# Altium integrated library Integrated_Library1.IntLib: 2483 symbols (part 4 of 13)
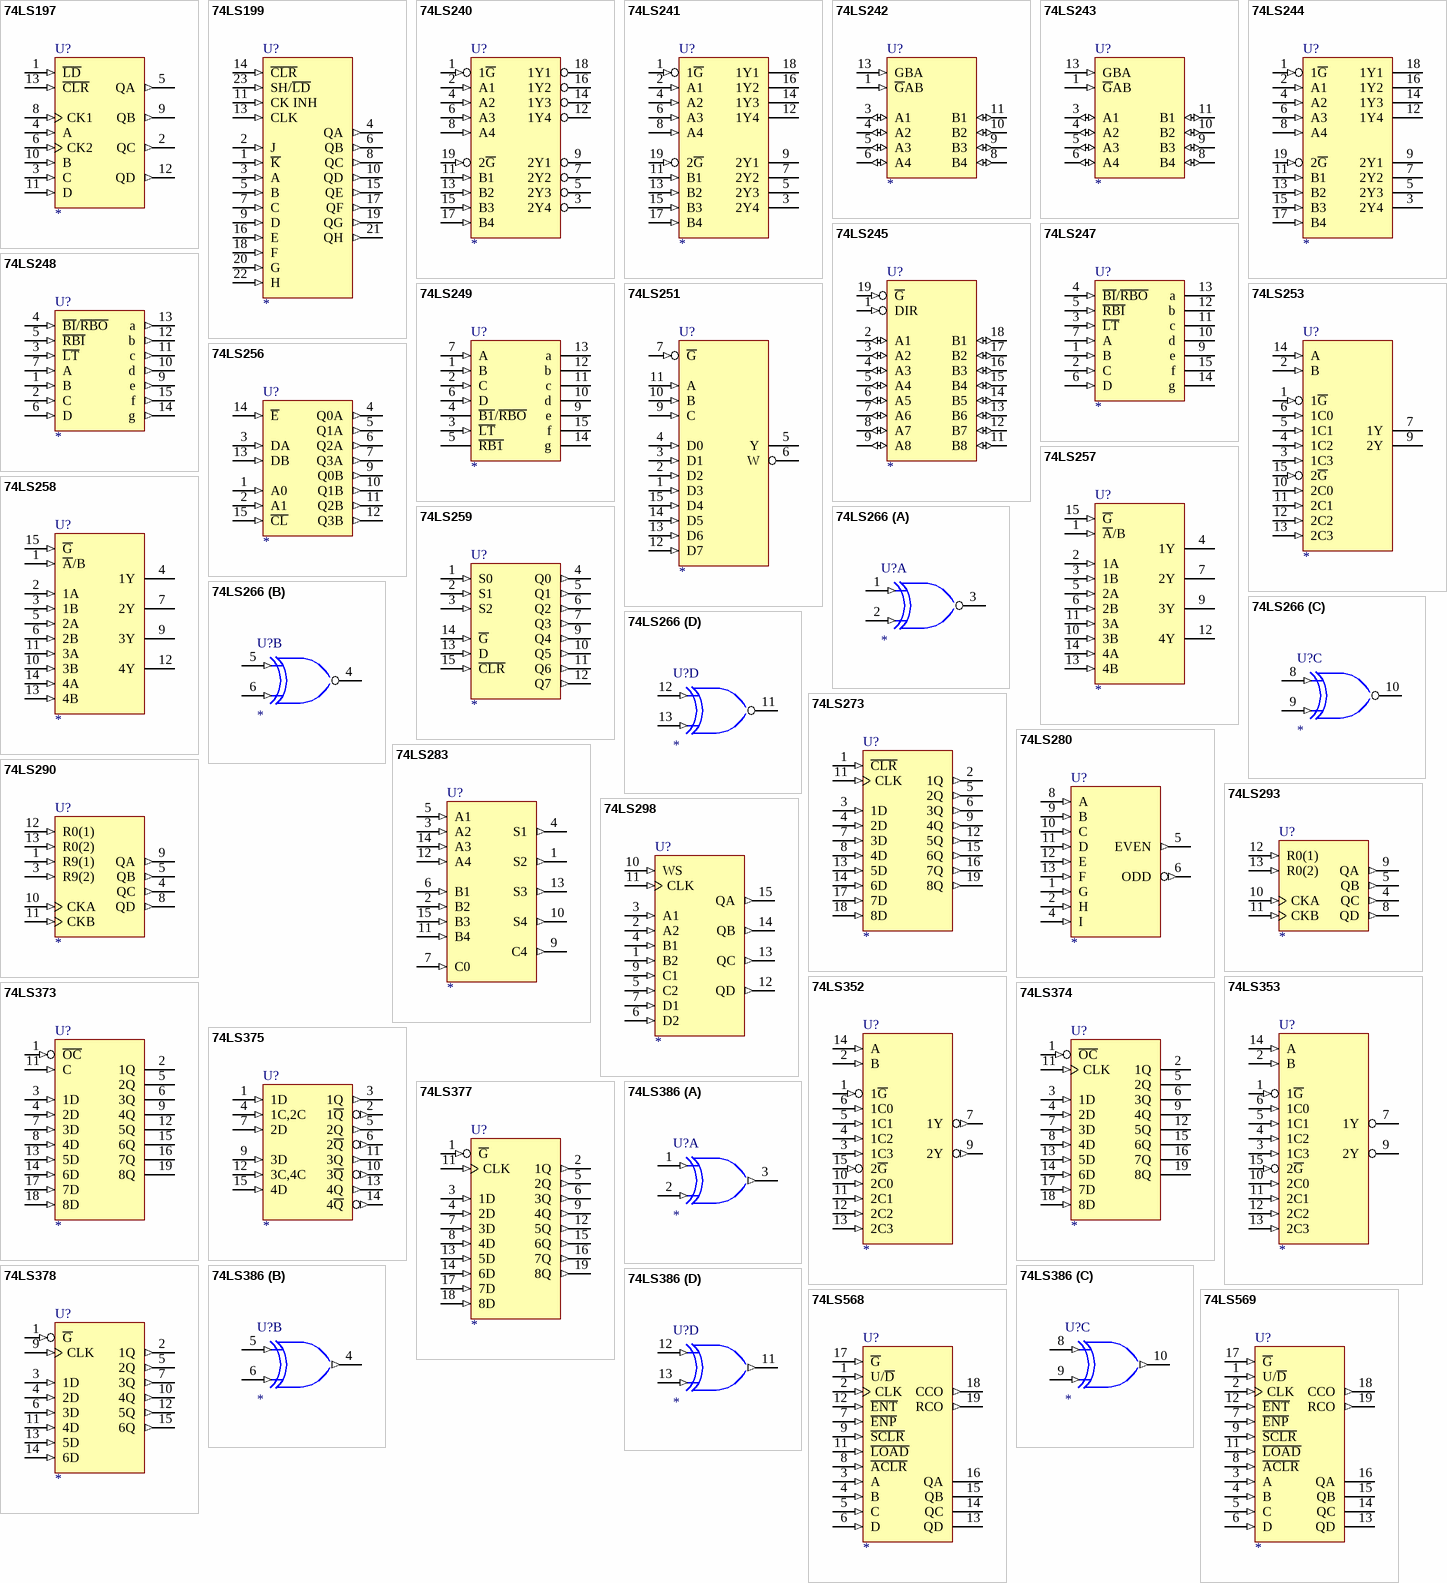
[diagram p111: symbols 74LS197 to 74LS569]

## 74LS290
designator U?
Decade Counter
footprint DIP-14
simulation model 74LS290 (SIMCODE)
pins: 1 R9(1) (in), 3 R9(2) (in), 4 QC (out), 5 QB (out), 7 GND (power) hidden to GND, 8 QD (out), 9 QA (out), 10 CKA (in), 11 CKB (in), 12 R0(1) (in), 13 R0(2) (in), 14 VCC (power) hidden to VCC
1 alternate drawing of the same symbol

## 74LS293
designator U?
4-Bit Binary Counter
footprint DIP-14
simulation model 74LS293 (SIMCODE)
pins: 4 QC (out), 5 QB (out), 7 GND (power) hidden to GND, 8 QD (out), 9 QA (out), 10 CKA (in), 11 CKB (in), 12 R0(1) (in), 13 R0(2) (in), 14 VCC (power) hidden to VCC
1 alternate drawing of the same symbol

## 74LS298
designator U?
Quad 2-Input Multiplexer with Storage
footprint DIP-16
simulation model 74LS298 (SIMCODE)
pins: 1 B2 (in), 2 A2 (in), 3 A1 (in), 4 B1 (in), 5 C2 (in), 6 D2 (in), 7 D1 (in), 8 GND (power) hidden to GND, 9 C1 (in), 10 WS (in), 11 CLK (in), 12 QD (out), 13 QC (out), 14 QB (out), 15 QA (out), 16 VCC (power) hidden to VCC
1 alternate drawing of the same symbol

## 74LS352
designator U?
Dual 4-Line to 1-Line Data Selector/Multiplexer
footprint DIP-16
simulation model 74LS352 (SIMCODE)
pins: 1 1~{G} (in), 2 B (in), 3 1C3 (in), 4 1C2 (in), 5 1C1 (in), 6 1C0 (in), 7 1Y (out), 8 GND (power) hidden to GND, 9 2Y (out), 10 2C0 (in), 11 2C1 (in), 12 2C2 (in), 13 2C3 (in), 14 A (in), 15 2~{G} (in), 16 VCC (power) hidden to VCC
1 alternate drawing of the same symbol

## 74LS353
designator U?
Dual 4-Line to 1-Line Data Selector/Multiplexer with 3-State Output
footprint DIP-16
simulation model 74LS353 (SIMCODE)
pins: 1 1~{G} (in), 2 B (in), 3 1C3 (in), 4 1C2 (in), 5 1C1 (in), 6 1C0 (in), 7 1Y (hiz), 8 GND (power) hidden to GND, 9 2Y (hiz), 10 2C0 (in), 11 2C1 (in), 12 2C2 (in), 13 2C3 (in), 14 A (in), 15 2~{G} (in), 16 VCC (power) hidden to VCC
1 alternate drawing of the same symbol

## 74LS373
designator U?
Octal D-Type Transparent Latch with 3-State Output
footprint DIP-20
simulation model 74LS373 (SIMCODE)
pins: 1 ~{OC} (in), 2 1Q (hiz), 3 1D (in), 4 2D (in), 5 2Q (hiz), 6 3Q (hiz), 7 3D (in), 8 4D (in), 9 4Q (hiz), 10 GND (power) hidden to GND, 11 C (in), 12 5Q (hiz), 13 5D (in), 14 6D (in), 15 6Q (hiz), 16 7Q (hiz), 17 7D (in), 18 8D (in), 19 8Q (hiz), 20 VCC (power) hidden to VCC
1 alternate drawing of the same symbol

## 74LS374
designator U?
Octal D-Type Edge-Triggered Flip-Flop with 3-State Output
footprint DIP-20
simulation model 74LS374 (SIMCODE)
pins: 1 ~{OC} (in), 2 1Q (hiz), 3 1D (in), 4 2D (in), 5 2Q (hiz), 6 3Q (hiz), 7 3D (in), 8 4D (in), 9 4Q (hiz), 10 GND (power) hidden to GND, 11 CLK (in), 12 5Q (hiz), 13 5D (in), 14 6D (in), 15 6Q (hiz), 16 7Q (hiz), 17 7D (in), 18 8D (in), 19 8Q (hiz), 20 VCC (power) hidden to VCC
1 alternate drawing of the same symbol

## 74LS375
designator U?
4-Bit Bistable Latch
footprint DIP-16
simulation model 74LS375 (SIMCODE)
pins: 1 1D (in), 2 1~{Q} (out), 3 1Q (out), 4 1C,2C (in), 5 2Q (out), 6 2~{Q} (out), 7 2D (in), 8 GND (power) hidden to GND, 9 3D (in), 10 3~{Q} (out), 11 3Q (out), 12 3C,4C (in), 13 4Q (out), 14 4~{Q} (out), 15 4D (in), 16 VCC (power) hidden to VCC
1 alternate drawing of the same symbol

## 74LS377
designator U?
Octal D-Type Flip-Flop with Enable
footprint DIP-20
simulation model 74LS377 (SIMCODE)
pins: 1 ~{G} (in), 2 1Q (out), 3 1D (in), 4 2D (in), 5 2Q (out), 6 3Q (out), 7 3D (in), 8 4D (in), 9 4Q (out), 10 GND (power) hidden to GND, 11 CLK (in), 12 5Q (out), 13 5D (in), 14 6D (in), 15 6Q (out), 16 7Q (out), 17 7D (in), 18 8D (in), 19 8Q (out), 20 VCC (power) hidden to VCC
1 alternate drawing of the same symbol

## 74LS378
designator U?
Hex D-Type Flip Flop with Enable
footprint DIP-16
simulation model 74LS378 (SIMCODE)
pins: 1 ~{G} (in), 2 1Q (out), 3 1D (in), 4 2D (in), 5 2Q (out), 6 3D (in), 7 3Q (out), 8 GND (power) hidden to GND, 9 CLK (in), 10 4Q (out), 11 4D (in), 12 5Q (out), 13 5D (in), 14 6D (in), 15 6Q (out), 16 VCC (power) hidden to VCC
1 alternate drawing of the same symbol

## 74LS386
designator U?
Quad Exclusive-OR Gate
footprint DIP-14
simulation model 74LS386 (SIMCODE)
part A pins: 1 A (in), 2 B (in), 3 Y (out), 7 GND (power) hidden to GND, 14 VCC (power) hidden to VCC
part B pins: 4 Y (out), 5 A (in), 6 B (in), 7 GND (power) hidden to GND, 14 VCC (power) hidden to VCC
part C pins: 7 GND (power) hidden to GND, 8 A (in), 9 B (in), 10 Y (out), 14 VCC (power) hidden to VCC
part D pins: 7 GND (power) hidden to GND, 11 Y (out), 12 A (in), 13 B (in), 14 VCC (power) hidden to VCC
1 alternate drawing of the same symbol

## 74LS568
designator U?
Synchronous 4-Bit Up/Down Decade Counter with 3-State Outputs
footprint DIP-20
simulation model 74LS568 (SIMCODE)
pins: 1 U/~{D} (in), 2 CLK (in), 3 A (in), 4 B (in), 5 C (in), 6 D (in), 7 ~{ENP} (in), 8 ~{ACLR} (in), 9 ~{SCLR} (in), 10 GND (power) hidden to GND, 11 ~{LOAD} (in), 12 ~{ENT} (in), 13 QD (hiz), 14 QC (hiz), 15 QB (hiz), 16 QA (hiz), 17 ~{G} (in), 18 CCO (out), 19 RCO (out), 20 VCC (power) hidden to VCC
1 alternate drawing of the same symbol

## 74LS569
designator U?
Synchronous 4-Bit Up/Down Binary Counter with 3-State Outputs
footprint DIP-20
simulation model 74LS569 (SIMCODE)
pins: 1 U/~{D} (in), 2 CLK (in), 3 A (in), 4 B (in), 5 C (in), 6 D (in), 7 ~{ENP} (in), 8 ~{ACLR} (in), 9 ~{SCLR} (in), 10 GND (power) hidden to GND, 11 ~{LOAD} (in), 12 ~{ENT} (in), 13 QD (hiz), 14 QC (hiz), 15 QB (hiz), 16 QA (hiz), 17 ~{G} (in), 18 CCO (out), 19 RCO (out), 20 VCC (power) hidden to VCC
1 alternate drawing of the same symbol

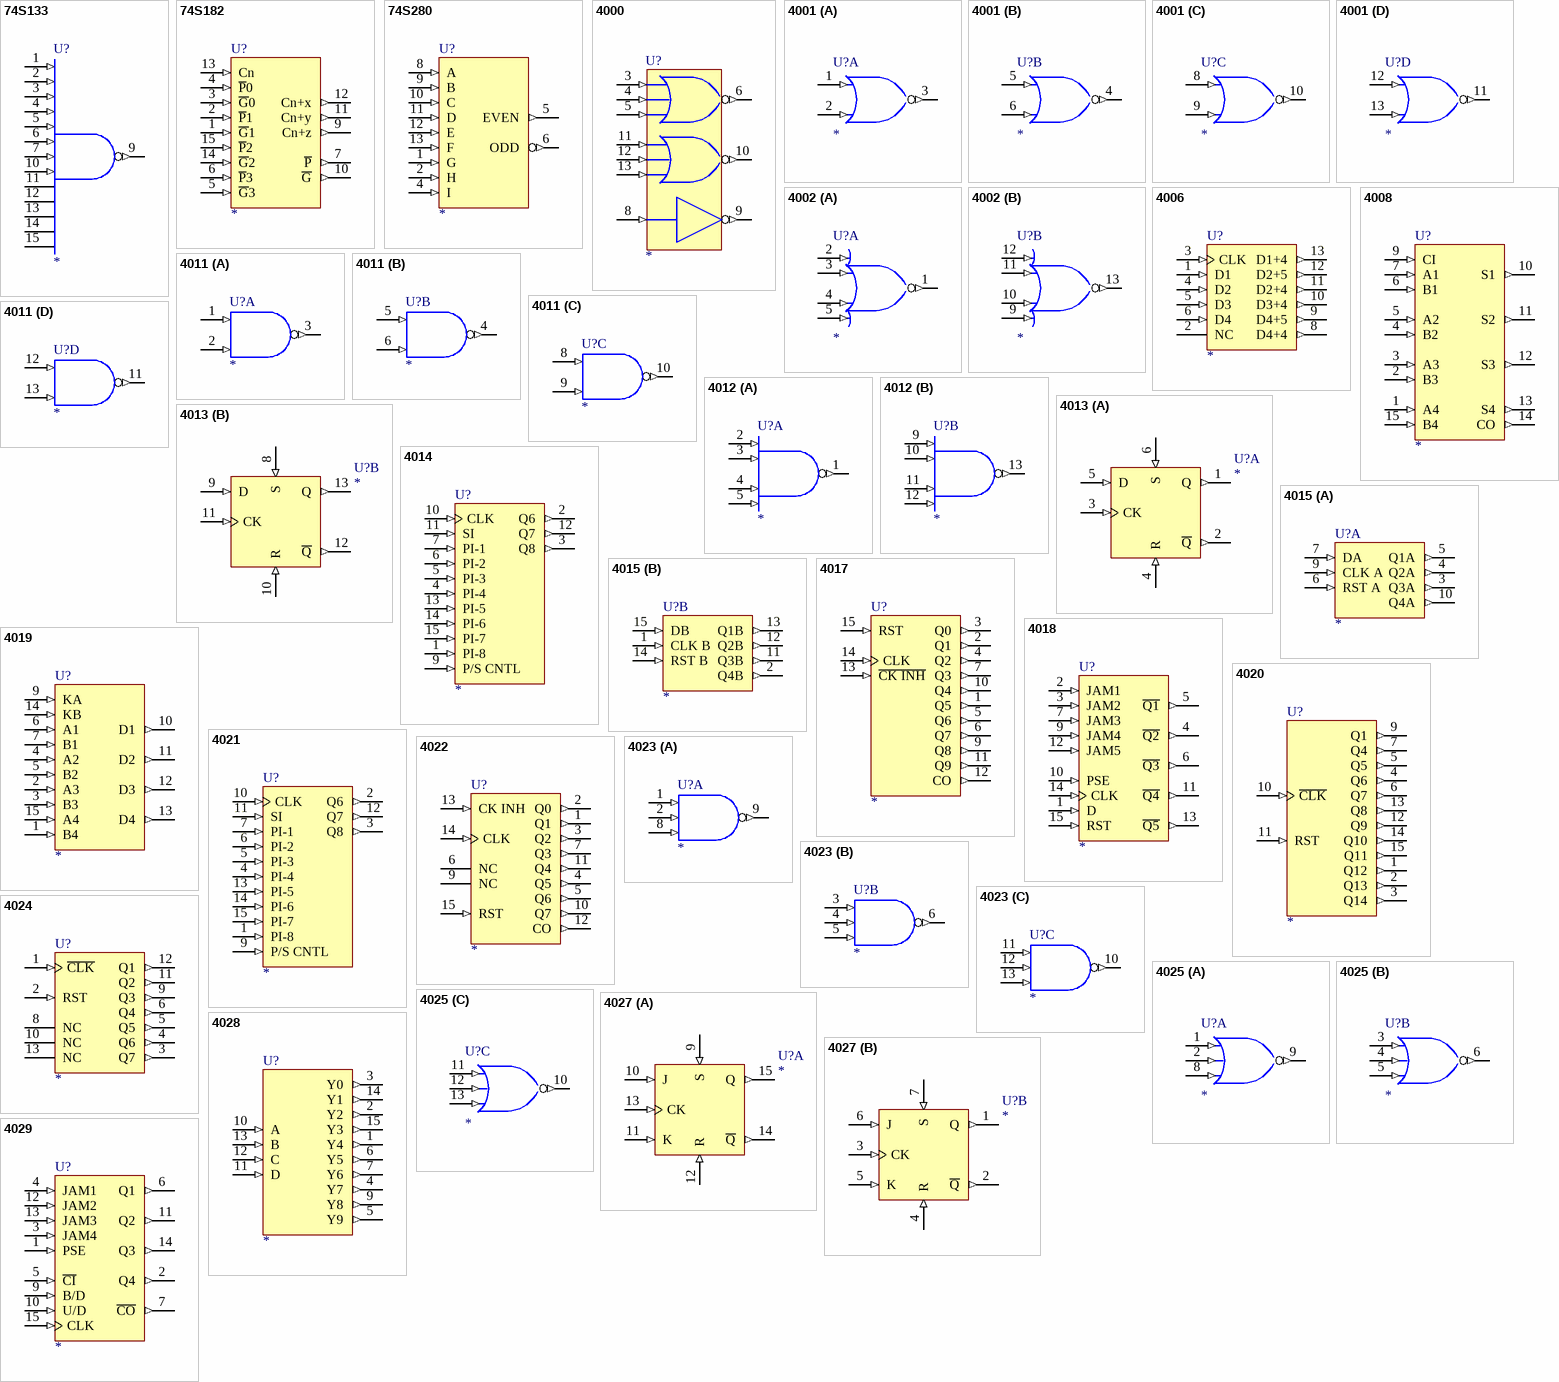
[diagram p29: symbols 74S133 to 4029]

## 74S133
designator U?
13-Input Positive-NAND Gate
footprint DIP-16
simulation model 74S133 (SIMCODE)
pins: 1 A (in), 2 B (in), 3 C (in), 4 D (in), 5 E (in), 6 F (in), 7 G (in), 8 GND (power) hidden to GND, 9 Y (out), 10 H (in), 11 I, 12 J, 13 K, 14 L, 15 M, 16 VCC (power) hidden to VCC
2 alternate drawings of the same symbol

## 74S182
designator U?
Look-Ahead Carry Generator
footprint DIP-16
simulation model 74S182 (SIMCODE)
pins: 1 ~{G}1 (in), 2 ~{P}1 (in), 3 ~{G}0 (in), 4 ~{P}0 (in), 5 ~{G}3 (in), 6 ~{P}3 (in), 7 ~{P} (out), 8 GND (power) hidden to GND, 9 Cn+z (out), 10 ~{G} (out), 11 Cn+y (out), 12 Cn+x (out), 13 Cn (in), 14 ~{G}2 (in), 15 ~{P}2 (in), 16 VCC (power) hidden to VCC
1 alternate drawing of the same symbol

## 74S280
designator U?
9-Bit Odd/Even Parity Generator/Checker
footprint DIP-14
simulation model 74S280 (SIMCODE)
pins: 1 G (in), 2 H (in), 4 I (in), 5 EVEN (out), 6 ODD (out), 7 GND (power) hidden to GND, 8 A (in), 9 B (in), 10 C (in), 11 D (in), 12 E (in), 13 F (in), 14 VCC (power) hidden to VCC
1 alternate drawing of the same symbol

## 4000
designator U?
Dual 3-Input NOR Gate plus Inverter
footprint DIP-14
simulation model 4000 (SIMCODE)
pins: 3 A (in), 4 B (in), 5 C (in), 6 Y (out), 7 GND (power) hidden to GND, 8 A (in), 9 Y (out), 10 Y (out), 11 A (in), 12 B (in), 13 C (in), 14 VDD (power) hidden to VDD
2 alternate drawings of the same symbol

## 4001
designator U?
Quad 2-Input NOR Gate
footprint DIP-14
simulation model 4001 (SIMCODE)
part A pins: 1 A (in), 2 B (in), 3 Y (out), 7 GND (power) hidden to GND, 14 VDD (power) hidden to VDD
part B pins: 4 Y (out), 5 A (in), 6 B (in), 7 GND (power) hidden to GND, 14 VDD (power) hidden to VDD
part C pins: 7 GND (power) hidden to GND, 8 A (in), 9 B (in), 10 Y (out), 14 VDD (power) hidden to VDD
part D pins: 7 GND (power) hidden to GND, 11 Y (out), 12 A (in), 13 B (in), 14 VDD (power) hidden to VDD
1 alternate drawing of the same symbol

## 4002
designator U?
Dual 4-Input NOR Gate
footprint DIP-14
simulation model 4002 (SIMCODE)
part A pins: 1 J (out), 2 A (in), 3 B (in), 4 C (in), 5 D (in), 7 GND (power) hidden to GND, 14 VDD (power) hidden to VDD
part B pins: 7 GND (power) hidden to GND, 9 E (in), 10 F (in), 11 G (in), 12 H (in), 13 K (out), 14 VDD (power) hidden to VDD
1 alternate drawing of the same symbol

## 4006
designator U?
18-Stage Static Shift Register
footprint DIP-14
simulation model 4006 (SIMCODE)
pins: 1 D1 (in), 2 NC, 3 CLK (in), 4 D2 (in), 5 D3 (in), 6 D4 (in), 7 GND (power) hidden to GND, 8 D4+4 (out), 9 D4+5 (out), 10 D3+4 (out), 11 D2+4 (out), 12 D2+5 (out), 13 D1+4 (out), 14 VDD (power) hidden to VDD

## 4008
designator U?
4-Bit Full Adder with Parallel Carry Output
footprint DIP-16
simulation model 4008 (SIMCODE)
pins: 1 A4 (in), 2 B3 (in), 3 A3 (in), 4 B2 (in), 5 A2 (in), 6 B1 (in), 7 A1 (in), 8 GND (power) hidden to GND, 9 CI (in), 10 S1 (out), 11 S2 (out), 12 S3 (out), 13 S4 (out), 14 CO (out), 15 B4 (in), 16 VDD (power) hidden to VDD
1 alternate drawing of the same symbol

## 4011
designator U?
Quad 2-Input NAND Gate
footprint DIP-14
simulation model 4011 (SIMCODE)
part A pins: 1 A (in), 2 B (in), 3 Y (out), 7 GND (power) hidden to GND, 14 VDD (power) hidden to VDD
part B pins: 4 Y (out), 5 A (in), 6 B (in), 7 GND (power) hidden to GND, 14 VDD (power) hidden to VDD
part C pins: 7 GND (power) hidden to GND, 8 A (in), 9 B (in), 10 Y (out), 14 VDD (power) hidden to VDD
part D pins: 7 GND (power) hidden to GND, 11 Y (out), 12 A (in), 13 B (in), 14 VDD (power) hidden to VDD

## 4012
designator U?
Dual 4-Input NAND Gate
footprint DIP-14
simulation model 4012 (SIMCODE)
part A pins: 1 Y (out), 2 A (in), 3 B (in), 4 C (in), 5 D (in), 7 GND (power) hidden to GND, 14 VDD (power) hidden to VDD
part B pins: 7 GND (power) hidden to GND, 9 A (in), 10 B (in), 11 C (in), 12 D (in), 13 Y (out), 14 VDD (power) hidden to VDD
2 alternate drawings of the same symbol

## 4013
designator U?
Dual D-Type Flip-Flop
footprint DIP-14
simulation model 4013 (SIMCODE)
part A pins: 1 Q (out), 2 ~{Q} (out), 3 CK (in), 4 R (in), 5 D (in), 6 S (in), 7 GND (power) hidden to GND, 14 VDD (power) hidden to VDD
part B pins: 7 GND (power) hidden to GND, 8 S (in), 9 D (in), 10 R (in), 11 CK (in), 12 ~{Q} (out), 13 Q (out), 14 VDD (power) hidden to VDD

## 4014
designator U?
8-Stage Shift Register (Synchronous Parallel or Serial Input/Serial Output)
footprint DIP-16
simulation model 4014 (SIMCODE)
pins: 1 PI-8 (in), 2 Q6 (out), 3 Q8 (out), 4 PI-4 (in), 5 PI-3 (in), 6 PI-2 (in), 7 PI-1 (in), 8 GND (power) hidden to GND, 9 P/S CNTL (in), 10 CLK (in), 11 SI (in), 12 Q7 (out), 13 PI-5 (in), 14 PI-6 (in), 15 PI-7 (in), 16 VDD (power) hidden to VDD

## 4015
designator U?
Dual 4-Stage Static Shift Register with Serial Input/Parallel Output
footprint DIP-16
simulation model 4015 (SIMCODE)
part A pins: 3 Q3A (out), 4 Q2A (out), 5 Q1A (out), 6 RST A (in), 7 DA (in), 8 GND (power) hidden to GND, 9 CLK A (in), 10 Q4A (out), 16 VDD (power) hidden to VDD
part B pins: 1 CLK B (in), 2 Q4B (out), 8 GND (power) hidden to GND, 11 Q3B (out), 12 Q2B (out), 13 Q1B (out), 14 RST B (in), 15 DB (in), 16 VDD (power) hidden to VDD

## 4017
designator U?
Decade Counter with 10 Decoded Outputs
footprint DIP-16
simulation model 4017 (SIMCODE)
pins: 1 Q5 (out), 2 Q1 (out), 3 Q0 (out), 4 Q2 (out), 5 Q6 (out), 6 Q7 (out), 7 Q3 (out), 8 GND (power) hidden to GND, 9 Q8 (out), 10 Q4 (out), 11 Q9 (out), 12 CO (out), 13 ~{CK INH} (in), 14 CLK (in), 15 RST (in), 16 VDD (power) hidden to VDD
1 alternate drawing of the same symbol

## 4018
designator U?
Presettable Divide-by-N Counter
footprint DIP-16
simulation model 4018 (SIMCODE)
pins: 1 D (in), 2 JAM1 (in), 3 JAM2 (in), 4 ~{Q2} (out), 5 ~{Q1} (out), 6 ~{Q3} (out), 7 JAM3 (in), 8 GND (power) hidden to GND, 9 JAM4 (in), 10 PSE (in), 11 ~{Q4} (out), 12 JAM5 (in), 13 ~{Q5} (out), 14 CLK (in), 15 RST (in), 16 VDD (power) hidden to VDD

## 4019
designator U?
Quad AND/OR Select Gate
footprint DIP-16
simulation model 4019 (SIMCODE)
pins: 1 B4 (in), 2 A3 (in), 3 B3 (in), 4 A2 (in), 5 B2 (in), 6 A1 (in), 7 B1 (in), 8 GND (power) hidden to GND, 9 KA (in), 10 D1 (out), 11 D2 (out), 12 D3 (out), 13 D4 (out), 14 KB (in), 15 A4 (in), 16 VDD (power) hidden to VDD

## 4020
designator U?
14-Stage Ripple-Carry Binary Counter
footprint DIP-16
simulation model 4020 (SIMCODE)
pins: 1 Q12 (out), 2 Q13 (out), 3 Q14 (out), 4 Q6 (out), 5 Q5 (out), 6 Q7 (out), 7 Q4 (out), 8 GND (power) hidden to GND, 9 Q1 (out), 10 ~{CLK} (in), 11 RST (in), 12 Q9 (out), 13 Q8 (out), 14 Q10 (out), 15 Q11 (out), 16 VDD (power) hidden to VDD
1 alternate drawing of the same symbol

## 4021
designator U?
8-Stage Shift Register (Asynchronous Parallel Input or Synchronous Serial Input/Serial Output)
footprint DIP-16
simulation model 4021 (SIMCODE)
pins: 1 PI-8 (in), 2 Q6 (out), 3 Q8 (out), 4 PI-4 (in), 5 PI-3 (in), 6 PI-2 (in), 7 PI-1 (in), 8 GND (power) hidden to GND, 9 P/S CNTL (in), 10 CLK (in), 11 SI (in), 12 Q7 (out), 13 PI-5 (in), 14 PI-6 (in), 15 PI-7 (in), 16 VDD (power) hidden to VDD

## 4022
designator U?
Octal Counter with 8 Decoded Outputs
footprint DIP-16
simulation model 4022 (SIMCODE)
pins: 1 Q1 (out), 2 Q0 (out), 3 Q2 (out), 4 Q5 (out), 5 Q6 (out), 6 NC, 7 Q3 (out), 8 GND (power) hidden to GND, 9 NC, 10 Q7 (out), 11 Q4 (out), 12 CO (out), 13 CK INH (in), 14 CLK (in), 15 RST (in), 16 VDD (power) hidden to VDD
1 alternate drawing of the same symbol

## 4023
designator U?
Triple 3-Input NAND Gate
footprint DIP-14
simulation model 4023 (SIMCODE)
part A pins: 1 1A (in), 2 1B (in), 7 GND (power) hidden to GND, 8 1C (in), 9 1Y (out), 14 VDD (power) hidden to VDD
part B pins: 3 2A (in), 4 2B (in), 5 2C (in), 6 2Y (out), 7 GND (power) hidden to GND, 14 VDD (power) hidden to VDD
part C pins: 7 GND (power) hidden to GND, 10 3Y (out), 11 3A (in), 12 3B (in), 13 3C (in), 14 VDD (power) hidden to VDD
2 alternate drawings of the same symbol

## 4024
designator U?
7-Stage Ripple-Carry Binary Counter
footprint DIP-14
simulation model 4024 (SIMCODE)
pins: 1 ~{CLK} (in), 2 RST (in), 3 Q7 (out), 4 Q6 (out), 5 Q5 (out), 6 Q4 (out), 7 GND (power) hidden to GND, 8 NC, 9 Q3 (out), 10 NC, 11 Q2 (out), 12 Q1 (out), 13 NC, 14 VDD (power) hidden to VDD
1 alternate drawing of the same symbol

## 4025
designator U?
Triple 3-Input NOR Gate
footprint DIP-14
simulation model 4025 (SIMCODE)
part A pins: 1 A (in), 2 B (in), 7 GND (power) hidden to GND, 8 C (in), 9 J (out), 14 VDD (power) hidden to VDD
part B pins: 3 D (in), 4 E (in), 5 F (in), 6 K (out), 7 GND (power) hidden to GND, 14 VDD (power) hidden to VDD
part C pins: 7 GND (power) hidden to GND, 10 L (out), 11 I (in), 12 H (in), 13 G (in), 14 VDD (power) hidden to VDD
1 alternate drawing of the same symbol

## 4027
designator U?
Dual J-K Master-Slave Flip-Flop
footprint DIP-16
simulation model 4027 (SIMCODE)
part A pins: 8 GND (power) hidden to GND, 9 S (in), 10 J (in), 11 K (in), 12 R (in), 13 CK (in), 14 ~{Q} (out), 15 Q (out), 16 VDD (power) hidden to VDD
part B pins: 1 Q (out), 2 ~{Q} (out), 3 CK (in), 4 R (in), 5 K (in), 6 J (in), 7 S (in), 8 GND (power) hidden to GND, 16 VDD (power) hidden to VDD

## 4028
designator U?
BCD to Decimal Decoder
footprint DIP-16
simulation model 4028 (SIMCODE)
pins: 1 Y4 (out), 2 Y2 (out), 3 Y0 (out), 4 Y7 (out), 5 Y9 (out), 6 Y5 (out), 7 Y6 (out), 8 GND (power) hidden to GND, 9 Y8 (out), 10 A (in), 11 D (in), 12 C (in), 13 B (in), 14 Y1 (out), 15 Y3 (out), 16 VDD (power) hidden to VDD
1 alternate drawing of the same symbol

## 4029
designator U?
Presettable Up/Down Counter Binary or BCD Decade
footprint DIP-16
simulation model 4029 (SIMCODE)
pins: 1 PSE (in), 2 Q4 (out), 3 JAM4 (in), 4 JAM1 (in), 5 ~{CI} (in), 6 Q1 (out), 7 ~{CO} (out), 8 GND (power) hidden to GND, 9 B/D (in), 10 U/D (in), 11 Q2 (out), 12 JAM2 (in), 13 JAM3 (in), 14 Q3 (out), 15 CLK (in), 16 VDD (power) hidden to VDD

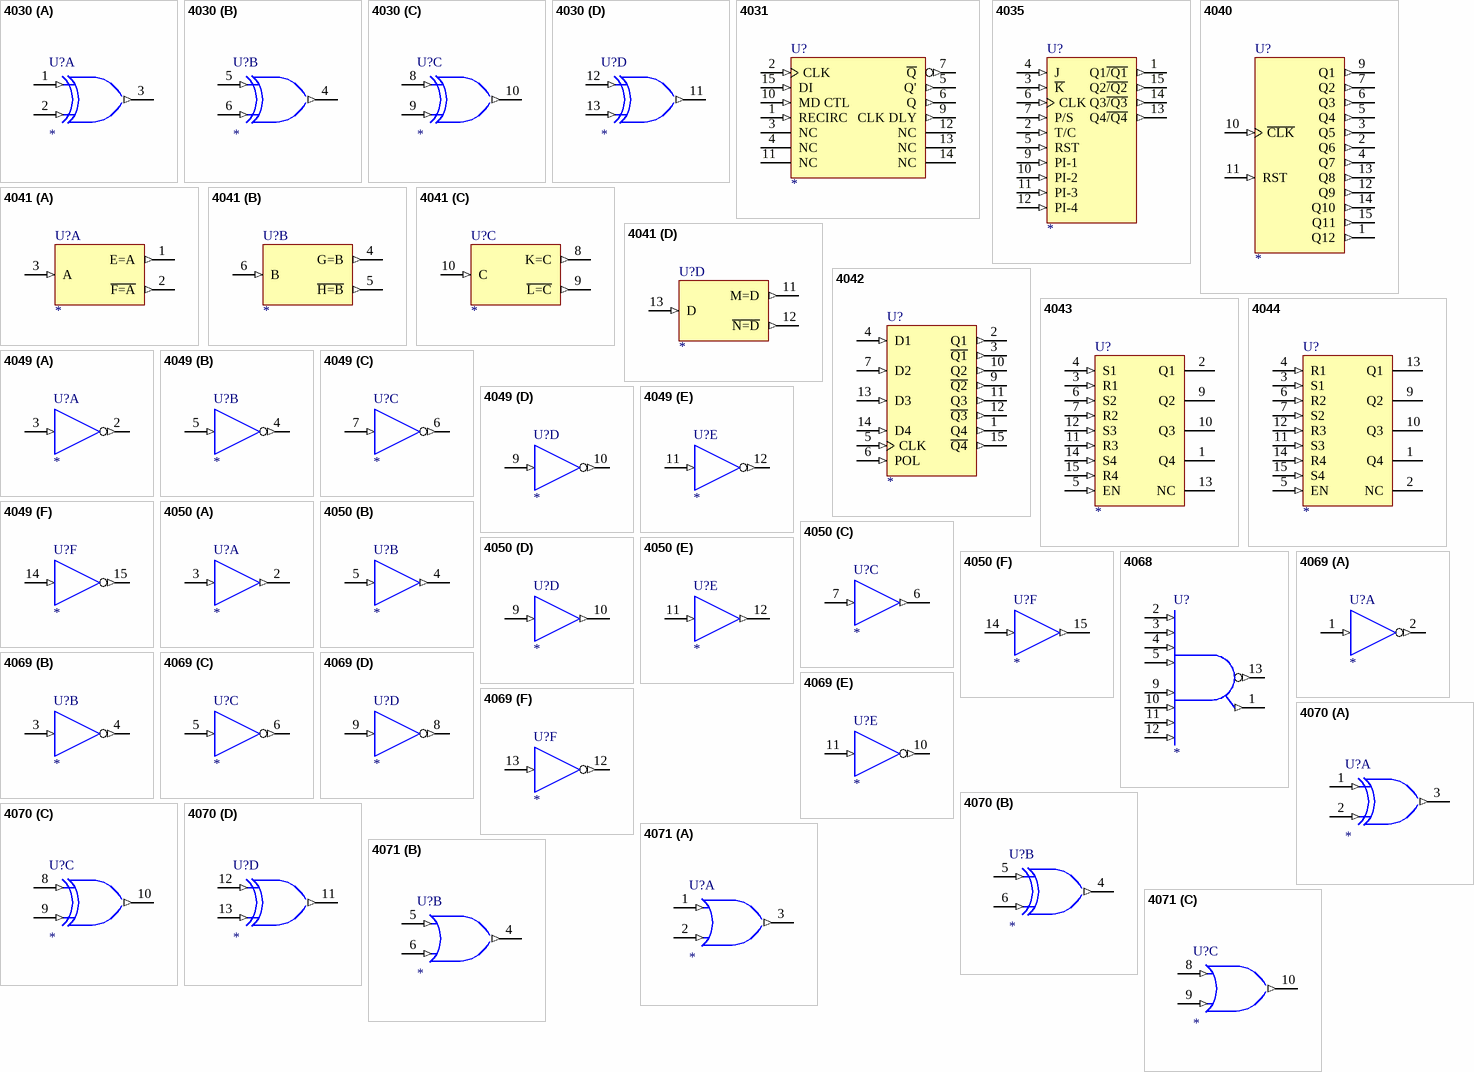
[diagram p30: symbols 4030 to 4071]

## 4030
designator U?
Quad Exclusive-OR Gate
footprint DIP-14
simulation model 4030 (SIMCODE)
part A pins: 1 1A (in), 2 1B (in), 3 1Y (out), 7 GND (power) hidden to GND, 14 VDD (power) hidden to VDD
part B pins: 4 2Y (out), 5 2A (in), 6 2B (in), 7 GND (power) hidden to GND, 14 VDD (power) hidden to VDD
part C pins: 7 GND (power) hidden to GND, 8 3A (in), 9 3B (in), 10 3Y (out), 14 VDD (power) hidden to VDD
part D pins: 7 GND (power) hidden to GND, 11 4Y (out), 12 4A (in), 13 4B (in), 14 VDD (power) hidden to VDD
1 alternate drawing of the same symbol

## 4031
designator U?
64-Stage Static Shift Register
footprint DIP-16
simulation model 4031 (SIMCODE)
pins: 1 RECIRC (in), 2 CLK (in), 3 NC, 4 NC, 5 Q' (out), 6 Q (out), 7 ~{Q} (out), 8 GND (power) hidden to GND, 9 CLK DLY (out), 10 MD CTL (in), 11 NC, 12 NC, 13 NC, 14 NC, 15 DI (in), 16 VDD (power) hidden to VDD

## 4035
designator U?
4-Stage Parallel In/Parallel Out Shift Register
footprint DIP-16
simulation model 4035 (SIMCODE)
pins: 1 Q1~{/Q1} (out), 2 T/C (in), 3 ~{K} (in), 4 J (in), 5 RST (in), 6 CLK (in), 7 P/S (in), 8 GND (power) hidden to GND, 9 PI-1 (in), 10 PI-2 (in), 11 PI-3 (in), 12 PI-4 (in), 13 Q4~{/Q4} (out), 14 Q3~{/Q3} (out), 15 Q2~{/Q2} (out), 16 VDD (power) hidden to VDD

## 4040
designator U?
12-Stage Ripple-Carry Binary Counter
footprint DIP-16
simulation model 4040 (SIMCODE)
pins: 1 Q12 (out), 2 Q6 (out), 3 Q5 (out), 4 Q7 (out), 5 Q4 (out), 6 Q3 (out), 7 Q2 (out), 8 GND (power) hidden to GND, 9 Q1 (out), 10 ~{CLK} (in), 11 RST (in), 12 Q9 (out), 13 Q8 (out), 14 Q10 (out), 15 Q11 (out), 16 VDD (power) hidden to VDD
1 alternate drawing of the same symbol

## 4041
designator U?
Quad True/Complement Buffer
footprint DIP-14
simulation model 4041 (SIMCODE)
part A pins: 1 E=A (out), 2 ~{F=A} (out), 3 A (in), 7 GND (power) hidden to GND, 14 VDD (power) hidden to VDD
part B pins: 4 G=B (out), 5 ~{H=B} (out), 6 B (in), 7 GND (power) hidden to GND, 14 VDD (power) hidden to VDD
part C pins: 7 GND (power) hidden to GND, 8 K=C (out), 9 ~{L=C} (out), 10 C (in), 14 VDD (power) hidden to VDD
part D pins: 7 GND (power) hidden to GND, 11 M=D (out), 12 ~{N=D} (out), 13 D (in), 14 VDD (power) hidden to VDD

## 4042
designator U?
Quad Clocked D-Latch
footprint DIP-16
simulation model 4042 (SIMCODE)
pins: 1 Q4 (out), 2 Q1 (out), 3 ~{Q1} (out), 4 D1 (in), 5 CLK (in), 6 POL (in), 7 D2 (in), 8 GND (power) hidden to GND, 9 ~{Q2} (out), 10 Q2 (out), 11 Q3 (out), 12 ~{Q3} (out), 13 D3 (in), 14 D4 (in), 15 ~{Q4} (out), 16 VDD (power) hidden to VDD

## 4043
designator U?
Quad 3-State R-S Latch
footprint DIP-16
simulation model 4043 (SIMCODE)
pins: 1 Q4 (hiz), 2 Q1 (hiz), 3 R1 (in), 4 S1 (in), 5 EN (in), 6 S2 (in), 7 R2 (in), 8 GND (power) hidden to GND, 9 Q2 (hiz), 10 Q3 (hiz), 11 R3 (in), 12 S3 (in), 13 NC, 14 S4 (in), 15 R4 (in), 16 VDD (power) hidden to VDD

## 4044
designator U?
Quad 3-State R-S Latch
footprint DIP-16
simulation model 4044 (SIMCODE)
pins: 1 Q4 (hiz), 2 NC, 3 S1 (in), 4 R1 (in), 5 EN (in), 6 R2 (in), 7 S2 (in), 8 GND (power) hidden to GND, 9 Q2 (hiz), 10 Q3 (hiz), 11 S3 (in), 12 R3 (in), 13 Q1 (hiz), 14 R4 (in), 15 S4 (in), 16 VDD (power) hidden to VDD

## 4049
designator U?
Inverting Hex Buffer / Converter
footprint DIP-16
simulation model 4049 (SIMCODE)
part A pins: 1 VDD (power) hidden to VDD, 2 1Y (out), 3 1A (in), 8 GND (power) hidden to GND
part B pins: 1 VDD (power) hidden to VDD, 4 2Y (out), 5 2A (in), 8 GND (power) hidden to GND
part C pins: 1 VDD (power) hidden to VDD, 6 3Y (out), 7 3A (in), 8 GND (power) hidden to GND
part D pins: 1 VDD (power) hidden to VDD, 8 GND (power) hidden to GND, 9 4A (in), 10 4Y (out)
part E pins: 1 VDD (power) hidden to VDD, 8 GND (power) hidden to GND, 11 5A (in), 12 5Y (out)
part F pins: 1 VDD (power) hidden to VDD, 8 GND (power) hidden to GND, 14 6A (in), 15 6Y (out)
2 alternate drawings of the same symbol

## 4050
designator U?
Non-Inverting Hex Buffer/Converter
footprint DIP-16
simulation model 4050 (SIMCODE)
part A pins: 1 VDD (power) hidden to VDD, 2 1Y (out), 3 1A (in), 8 GND (power) hidden to GND
part B pins: 1 VDD (power) hidden to VDD, 4 2Y (out), 5 2A (in), 8 GND (power) hidden to GND
part C pins: 1 VDD (power) hidden to VDD, 6 3Y (out), 7 3A (in), 8 GND (power) hidden to GND
part D pins: 1 VDD (power) hidden to VDD, 8 GND (power) hidden to GND, 9 4A (in), 10 4Y (out)
part E pins: 1 VDD (power) hidden to VDD, 8 GND (power) hidden to GND, 11 5A (in), 12 5Y (out)
part F pins: 1 VDD (power) hidden to VDD, 8 GND (power) hidden to GND, 14 6A (in), 15 6Y (out)
1 alternate drawing of the same symbol

## 4068
designator U?
8-Input NAND/AND Gate
footprint DIP-14
simulation model 4068 (SIMCODE)
pins: 1 Y (out), 2 A (in), 3 B (in), 4 C (in), 5 D (in), 7 GND (power) hidden to GND, 9 E (in), 10 F (in), 11 G (in), 12 H (in), 13 ~{Y} (out), 14 VDD (power) hidden to VDD

## 4069
designator U?
Hex Inverter
footprint DIP-14
simulation model 4069 (SIMCODE)
part A pins: 1 A (in), 2 Y (out), 7 GND (power) hidden to GND, 14 VDD (power) hidden to VDD
part B pins: 3 A (in), 4 Y (out), 7 GND (power) hidden to GND, 14 VDD (power) hidden to VDD
part C pins: 5 A (in), 6 Y (out), 7 GND (power) hidden to GND, 14 VDD (power) hidden to VDD
part D pins: 7 GND (power) hidden to GND, 8 Y (out), 9 A (in), 14 VDD (power) hidden to VDD
part E pins: 7 GND (power) hidden to GND, 10 Y (out), 11 A (in), 14 VDD (power) hidden to VDD
part F pins: 7 GND (power) hidden to GND, 12 Y (out), 13 A (in), 14 VDD (power) hidden to VDD

## 4070
designator U?
Quad Exclusive-OR Gate
footprint DIP-14
simulation model 4070 (SIMCODE)
part A pins: 1 1A (in), 2 1B (in), 3 1Y (out), 7 GND (power) hidden to GND, 14 VDD (power) hidden to VDD
part B pins: 4 2Y (out), 5 2A (in), 6 2B (in), 7 GND (power) hidden to GND, 14 VDD (power) hidden to VDD
part C pins: 7 GND (power) hidden to GND, 8 3A (in), 9 3B (in), 10 3Y (out), 14 VDD (power) hidden to VDD
part D pins: 7 GND (power) hidden to GND, 11 4Y (out), 12 4A (in), 13 4B (in), 14 VDD (power) hidden to VDD
1 alternate drawing of the same symbol

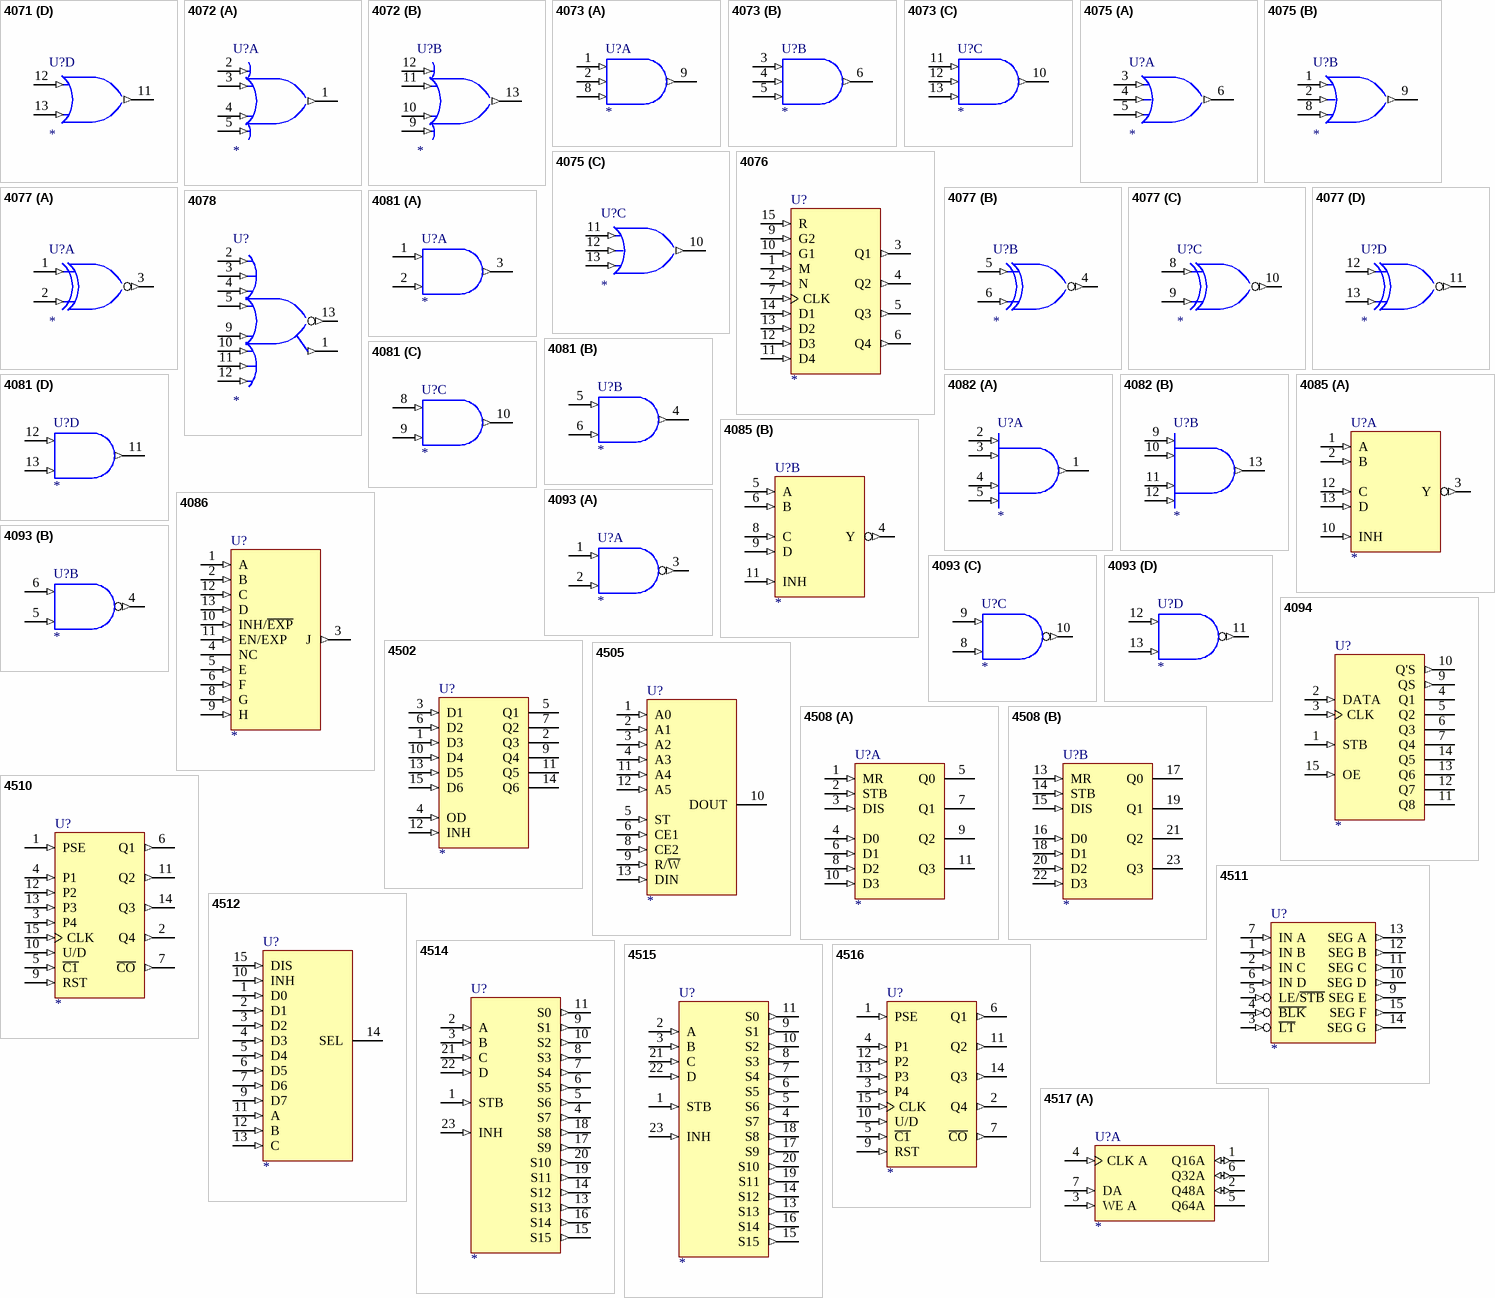
[diagram p31: symbols 4071 to 4517]

## 4071
designator U?
Quad 2-Input OR Gate
footprint DIP-14
simulation model 4071 (SIMCODE)
part A pins: 1 B (in), 2 A (in), 3 J (out), 7 GND (power) hidden to GND, 14 VDD (power) hidden to VDD
part B pins: 4 K (out), 5 D (in), 6 C (in), 7 GND (power) hidden to GND, 14 VDD (power) hidden to VDD
part C pins: 7 GND (power) hidden to GND, 8 F (in), 9 E (in), 10 L (out), 14 VDD (power) hidden to VDD
part D pins: 7 GND (power) hidden to GND, 11 M (out), 12 H (in), 13 G (in), 14 VDD (power) hidden to VDD
1 alternate drawing of the same symbol

## 4072
designator U?
Dual 4-Input OR Gate
footprint DIP-14
simulation model 4072 (SIMCODE)
part A pins: 1 1Y (out), 2 1A (in), 3 1B (in), 4 1C (in), 5 1D (in), 7 GND (power) hidden to GND, 14 VDD (power) hidden to VDD
part B pins: 7 GND (power) hidden to GND, 9 2D (in), 10 2C (in), 11 2B (in), 12 2A (in), 13 2Y (out), 14 VDD (power) hidden to VDD
2 alternate drawings of the same symbol

## 4073
designator U?
Triple 3-Input AND Gate
footprint DIP-14
simulation model 4073 (SIMCODE)
part A pins: 1 1A (in), 2 1B (in), 7 GND (power) hidden to GND, 8 1C (in), 9 1Y (out), 14 VDD (power) hidden to VDD
part B pins: 3 2A (in), 4 2B (in), 5 2C (in), 6 2Y (out), 7 GND (power) hidden to GND, 14 VDD (power) hidden to VDD
part C pins: 7 GND (power) hidden to GND, 10 3Y (out), 11 3A (in), 12 3B (in), 13 3C (in), 14 VDD (power) hidden to VDD
2 alternate drawings of the same symbol

## 4075
designator U?
Triple 3-Input OR Gate
footprint DIP-14
simulation model 4075 (SIMCODE)
part A pins: 3 1A (in), 4 1B (in), 5 1C (in), 6 1Y (out), 7 GND (power) hidden to GND, 14 VDD (power) hidden to VDD
part B pins: 1 2A (in), 2 2B (in), 7 GND (power) hidden to GND, 8 2C (in), 9 2Y (out), 14 VDD (power) hidden to VDD
part C pins: 7 GND (power) hidden to GND, 10 3Y (out), 11 3A (in), 12 3B (in), 13 3C (in), 14 VDD (power) hidden to VDD
2 alternate drawings of the same symbol

## 4076
designator U?
4-Bit D-Type Register
footprint DIP-16
simulation model 4076 (SIMCODE)
pins: 1 M (in), 2 N (in), 3 Q1 (out), 4 Q2 (out), 5 Q3 (out), 6 Q4 (out), 7 CLK (in), 8 GND (power) hidden to GND, 9 G2 (in), 10 G1 (in), 11 D4 (in), 12 D3 (in), 13 D2 (in), 14 D1 (in), 15 R (in), 16 VDD (power) hidden to VDD
1 alternate drawing of the same symbol

## 4077
designator U?
Quad Exclusive-NOR Gate
footprint DIP-14
simulation model 4077 (SIMCODE)
part A pins: 1 1A (in), 2 1B (in), 3 1Y (out), 7 GND (power) hidden to GND, 14 VDD (power) hidden to VDD
part B pins: 4 2Y (out), 5 2A (in), 6 2B (in), 7 GND (power) hidden to GND, 14 VDD (power) hidden to VDD
part C pins: 7 GND (power) hidden to GND, 8 3A (in), 9 3B (in), 10 3Y (out), 14 VDD (power) hidden to VDD
part D pins: 7 GND (power) hidden to GND, 11 4Y (out), 12 4A (in), 13 4B (in), 14 VDD (power) hidden to VDD
1 alternate drawing of the same symbol

## 4078
designator U?
8-Input NOR/OR Gate
footprint DIP-14
simulation model 4078 (SIMCODE)
pins: 1 X (out), 2 A (in), 3 B (in), 4 C (in), 5 D (in), 7 GND (power) hidden to GND, 9 E (in), 10 F (in), 11 G (in), 12 H (in), 13 ~{X} (out), 14 VDD (power) hidden to VDD
1 alternate drawing of the same symbol

## 4081
designator U?
Quad 2-Input AND Gate
footprint DIP-14
simulation model 4081 (SIMCODE)
part A pins: 1 1A (in), 2 1B (in), 3 1Y (out), 7 GND (power) hidden to GND, 14 VDD (power) hidden to VDD
part B pins: 4 2Y (out), 5 2A (in), 6 2B (in), 7 GND (power) hidden to GND, 14 VDD (power) hidden to VDD
part C pins: 7 GND (power) hidden to GND, 8 3A (in), 9 3B (in), 10 3Y (out), 14 VDD (power) hidden to VDD
part D pins: 7 GND (power) hidden to GND, 11 4Y (out), 12 4A (in), 13 4B (in), 14 VDD (power) hidden to VDD
2 alternate drawings of the same symbol

## 4082
designator U?
Dual 4-Input AND Gate
footprint DIP-14
simulation model 4082 (SIMCODE)
part A pins: 1 Y (out), 2 A (in), 3 B (in), 4 C (in), 5 D (in), 7 GND (power) hidden to GND, 14 VDD (power) hidden to VDD
part B pins: 7 GND (power) hidden to GND, 9 A (in), 10 B (in), 11 C (in), 12 D (in), 13 Y (out), 14 VDD (power) hidden to VDD
2 alternate drawings of the same symbol

## 4085
designator U?
Dual 2-Wide 2-Input AND-OR-Inverter Gate
footprint DIP-14
simulation model 4085 (SIMCODE)
part A pins: 1 A (in), 2 B (in), 3 Y (out), 7 GND (power) hidden to GND, 10 INH (in), 12 C (in), 13 D (in), 14 VDD (power) hidden to VDD
part B pins: 4 Y (out), 5 A (in), 6 B (in), 7 GND (power) hidden to GND, 8 C (in), 9 D (in), 11 INH (in), 14 VDD (power) hidden to VDD

## 4086
designator U?
Expandable 4-Wide 2-Input AND-OR-INVERT Gate
footprint DIP-14
simulation model 4086 (SIMCODE)
pins: 1 A (in), 2 B (in), 3 J (out), 4 NC, 5 E (in), 6 F (in), 7 GND (power) hidden to GND, 8 G (in), 9 H (in), 10 INH/~{EXP} (in), 11 EN/EXP (in), 12 C (in), 13 D (in), 14 VDD (power) hidden to VDD

## 4093
designator U?
Quad 2-Input NAND Schmitt-Trigger
footprint DIP-14
simulation model 4093 (SIMCODE)
part A pins: 1 1A (in), 2 1B (in), 3 1Y (out), 7 GND (power) hidden to GND, 14 VDD (power) hidden to VDD
part B pins: 4 2Y (out), 5 2B (in), 6 2A (in), 7 GND (power) hidden to GND, 14 VDD (power) hidden to VDD
part C pins: 7 GND (power) hidden to GND, 8 3B (in), 9 3A (in), 10 3Y (out), 14 VDD (power) hidden to VDD
part D pins: 7 GND (power) hidden to GND, 11 4Y (out), 12 4A (in), 13 4B (in), 14 VDD (power) hidden to VDD
1 alternate drawing of the same symbol

## 4094
designator U?
8-Stage Shift-and-Store Bus Register
footprint DIP-16
simulation model 4094 (SIMCODE)
pins: 1 STB (in), 2 DATA (in), 3 CLK (in), 4 Q1 (hiz), 5 Q2 (hiz), 6 Q3 (hiz), 7 Q4 (hiz), 8 GND (power) hidden to GND, 9 QS (out), 10 Q'S (out), 11 Q8 (hiz), 12 Q7 (hiz), 13 Q6 (hiz), 14 Q5 (hiz), 15 OE (in), 16 VDD (power) hidden to VDD

## 4502
designator U?
Strobed Hex Inverter/Buffer
footprint DIP-16
simulation model 4502 (SIMCODE)
pins: 1 D3 (in), 2 Q3 (hiz), 3 D1 (in), 4 OD (in), 5 Q1 (hiz), 6 D2 (in), 7 Q2 (hiz), 8 GND (power) hidden to GND, 9 Q4 (hiz), 10 D4 (in), 11 Q5 (hiz), 12 INH (in), 13 D5 (in), 14 Q6 (hiz), 15 D6 (in), 16 VDD (power) hidden to VDD

## 4505
designator U?
64-Bit, 1-Bit per word Random Access Read/Write Memory
footprint DIP-14
simulation model 4505 (SIMCODE)
pins: 1 A0 (in), 2 A1 (in), 3 A2 (in), 4 A3 (in), 5 ST (in), 6 CE1 (in), 7 GND (power) hidden to GND, 8 CE2 (in), 9 R/~{W} (in), 10 DOUT (hiz), 11 A4 (in), 12 A5 (in), 13 DIN (in), 14 VDD (power) hidden to VDD

## 4508
designator U?
Dual 4-Bit Latch with 3-State Outputs
footprint DIP-24
simulation model 4508 (SIMCODE)
part A pins: 1 MR (in), 2 STB (in), 3 DIS (in), 4 D0 (in), 5 Q0 (hiz), 6 D1 (in), 7 Q1 (hiz), 8 D2 (in), 9 Q2 (hiz), 10 D3 (in), 11 Q3 (hiz), 12 GND (power) hidden to GND, 24 VDD (power) hidden to VDD
part B pins: 12 GND (power) hidden to GND, 13 MR (in), 14 STB (in), 15 DIS (in), 16 D0 (in), 17 Q0 (hiz), 18 D1 (in), 19 Q1 (hiz), 20 D2 (in), 21 Q2 (hiz), 22 D3 (in), 23 Q3 (hiz), 24 VDD (power) hidden to VDD

## 4510
designator U?
Presettable Up/Down Counter
footprint DIP-16
simulation model 4510 (SIMCODE)
pins: 1 PSE (in), 2 Q4 (out), 3 P4 (in), 4 P1 (in), 5 ~{C1} (in), 6 Q1 (out), 7 ~{CO} (out), 8 GND (power) hidden to GND, 9 RST (in), 10 U/D (in), 11 Q2 (out), 12 P2 (in), 13 P3 (in), 14 Q3 (out), 15 CLK (in), 16 VDD (power) hidden to VDD

## 4511
designator U?
BCD-TO-7 Segment Latch/Decoder/LCD Driver
footprint DIP-16
simulation model 4511 (SIMCODE)
pins: 1 IN B (in), 2 IN C (in), 3 ~{LT} (in), 4 ~{BLK} (in), 5 LE/~{STB} (in), 6 IN D (in), 7 IN A (in), 8 GND (power) hidden to GND, 9 SEG E (out), 10 SEG D (out), 11 SEG C (out), 12 SEG B (out), 13 SEG A (out), 14 SEG G (out), 15 SEG F (out), 16 VDD (power) hidden to VDD

## 4512
designator U?
8-Channel Data Selector
footprint DIP-16
simulation model 4512 (SIMCODE)
pins: 1 D0 (in), 2 D1 (in), 3 D2 (in), 4 D3 (in), 5 D4 (in), 6 D5 (in), 7 D6 (in), 8 GND (power) hidden to GND, 9 D7 (in), 10 INH (in), 11 A (in), 12 B (in), 13 C (in), 14 SEL (hiz), 15 DIS (in), 16 VDD (power) hidden to VDD

## 4514
designator U?
4-Bit Latch/4-to-16 Line Decoder
footprint DIP-24
simulation model 4514 (SIMCODE)
pins: 1 STB (in), 2 A (in), 3 B (in), 4 S7 (out), 5 S6 (out), 6 S5 (out), 7 S4 (out), 8 S3 (out), 9 S1 (out), 10 S2 (out), 11 S0 (out), 12 GND (power) hidden to GND, 13 S13 (out), 14 S12 (out), 15 S15 (out), 16 S14 (out), 17 S9 (out), 18 S8 (out), 19 S11 (out), 20 S10 (out), 21 C (in), 22 D (in), 23 INH (in), 24 VDD (power) hidden to VDD
1 alternate drawing of the same symbol

## 4515
designator U?
4-Bit Latch/4-to-16 Line Decoder
footprint DIP-24
simulation model 4515 (SIMCODE)
pins: 1 STB (in), 2 A (in), 3 B (in), 4 S7 (out), 5 S6 (out), 6 S5 (out), 7 S4 (out), 8 S3 (out), 9 S1 (out), 10 S2 (out), 11 S0 (out), 12 GND (power) hidden to GND, 13 S13 (out), 14 S12 (out), 15 S15 (out), 16 S14 (out), 17 S9 (out), 18 S8 (out), 19 S11 (out), 20 S10 (out), 21 C (in), 22 D (in), 23 INH (in), 24 VDD (power) hidden to VDD
1 alternate drawing of the same symbol

## 4516
designator U?
Presettable Up/Down Counter
footprint DIP-16
simulation model 4516 (SIMCODE)
pins: 1 PSE (in), 2 Q4 (out), 3 P4 (in), 4 P1 (in), 5 ~{C1} (in), 6 Q1 (out), 7 ~{CO} (out), 8 GND (power) hidden to GND, 9 RST (in), 10 U/D (in), 11 Q2 (out), 12 P2 (in), 13 P3 (in), 14 Q3 (out), 15 CLK (in), 16 VDD (power) hidden to VDD

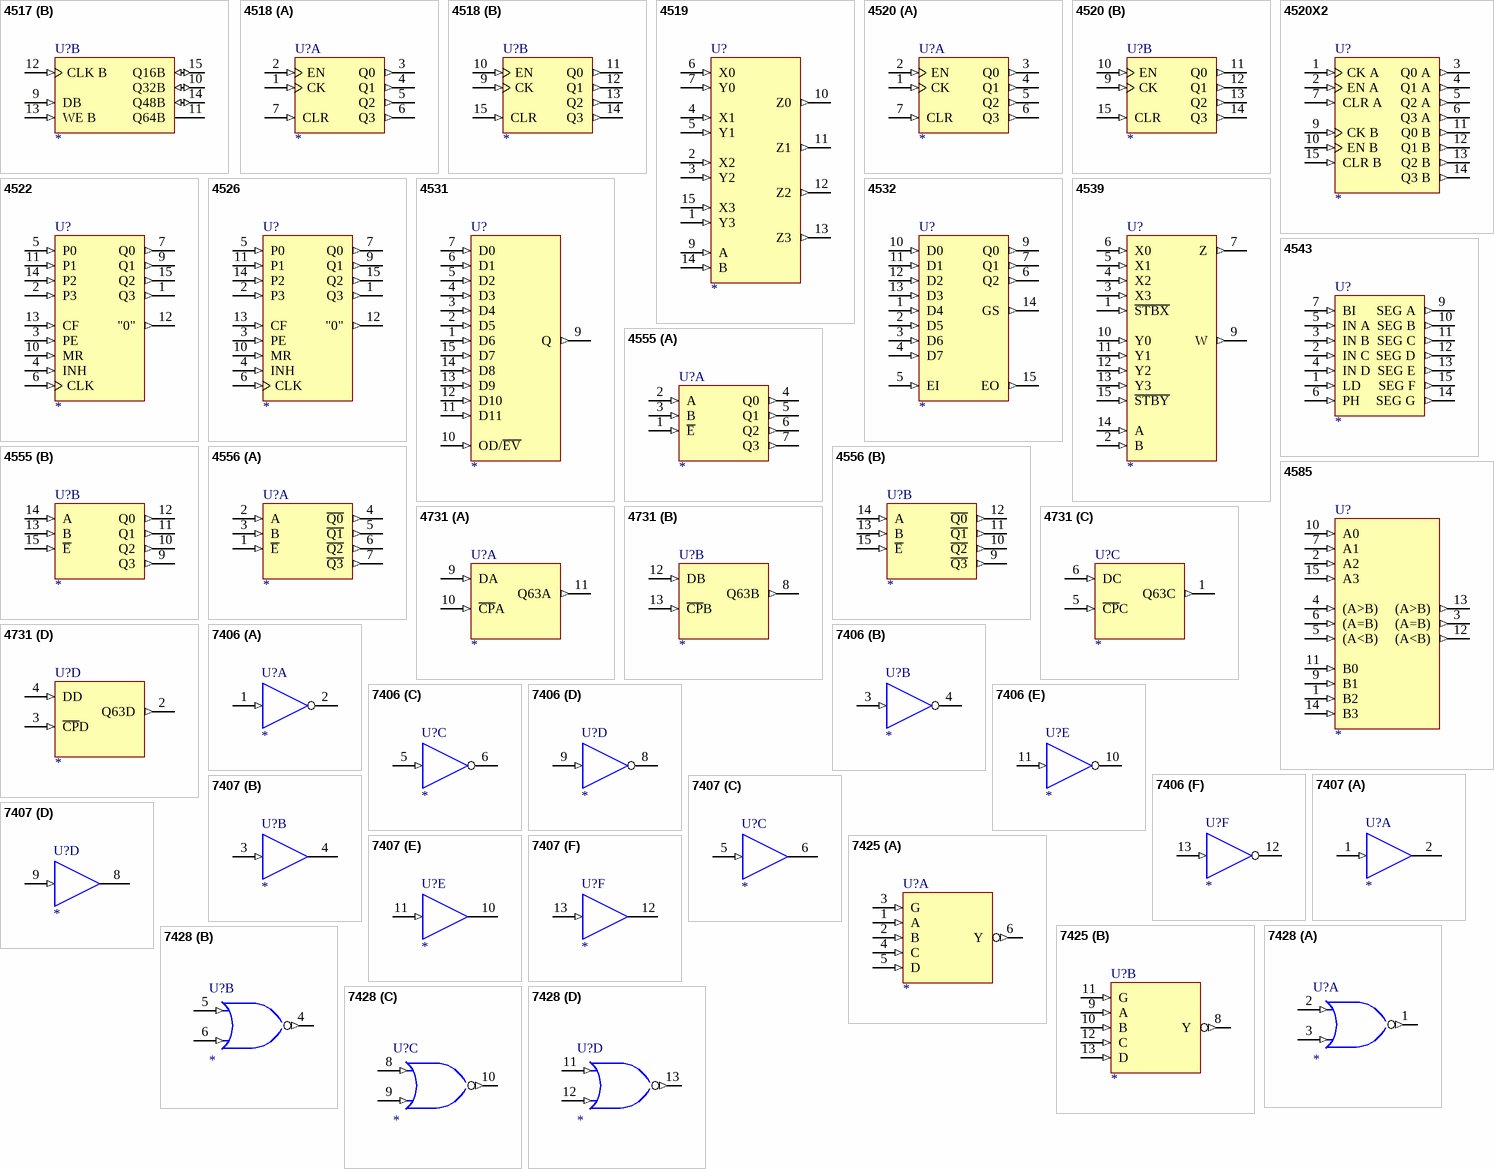
[diagram p32: symbols 4517 to 7428]

## 4517
designator U?
Dual 64-Stage Static Shift Register
footprint DIP-16
simulation model 4517 (SIMCODE)
part A pins: 1 Q16A (io), 2 Q48A (io), 3 WE A (in), 4 CLK A (in), 5 Q64A (hiz), 6 Q32A (io), 7 DA (in), 8 GND (power) hidden to GND, 16 VDD (power) hidden to VDD
part B pins: 8 GND (power) hidden to GND, 9 DB (in), 10 Q32B (io), 11 Q64B (hiz), 12 CLK B (in), 13 WE B (in), 14 Q48B (io), 15 Q16B (io), 16 VDD (power) hidden to VDD

## 4518
designator U?
Dual BCD Up - Counter
footprint DIP-16
simulation model 4518 (SIMCODE)
part A pins: 1 CK (in), 2 EN (in), 3 Q0 (out), 4 Q1 (out), 5 Q2 (out), 6 Q3 (out), 7 CLR (in), 8 GND (power) hidden to GND, 16 VDD (power) hidden to VDD
part B pins: 8 GND (power) hidden to GND, 9 CK (in), 10 EN (in), 11 Q0 (out), 12 Q1 (out), 13 Q2 (out), 14 Q3 (out), 15 CLR (in), 16 VDD (power) hidden to VDD
1 alternate drawing of the same symbol

## 4519
designator U?
Quad 2-Input Multiplexer
footprint DIP-16
simulation model 4519 (SIMCODE)
pins: 1 Y3 (in), 2 X2 (in), 3 Y2 (in), 4 X1 (in), 5 Y1 (in), 6 X0 (in), 7 Y0 (in), 8 GND (power) hidden to GND, 9 A (in), 10 Z0 (out), 11 Z1 (out), 12 Z2 (out), 13 Z3 (out), 14 B (in), 15 X3 (in), 16 VDD (power) hidden to VDD

## 4520
designator U?
Dual Binary Up - Counter
footprint DIP-16
simulation model 4520 (SIMCODE)
part A pins: 1 CK (in), 2 EN (in), 3 Q0 (out), 4 Q1 (out), 5 Q2 (out), 6 Q3 (out), 7 CLR (in), 8 GND (power) hidden to GND, 16 VDD (power) hidden to VDD
part B pins: 8 GND (power) hidden to GND, 9 CK (in), 10 EN (in), 11 Q0 (out), 12 Q1 (out), 13 Q2 (out), 14 Q3 (out), 15 CLR (in), 16 VDD (power) hidden to VDD
1 alternate drawing of the same symbol

## 4520X2
designator U?
Dual Binary Up - Counter
footprint DIP-16
simulation model 4520X2 (SIMCODE)
pins: 1 CK A (in), 2 EN A (in), 3 Q0 A (out), 4 Q1 A (out), 5 Q2 A (out), 6 Q3 A (out), 7 CLR A (in), 8 GND (power) hidden to GND, 9 CK B (in), 10 EN B (in), 11 Q0 B (out), 12 Q1 B (out), 13 Q2 B (out), 14 Q3 B (out), 15 CLR B (in), 16 VDD (power) hidden to VDD
1 alternate drawing of the same symbol

## 4522
designator U?
Programmable 4-Bit BCD Down Counter
footprint DIP-16
simulation model 4522 (SIMCODE)
pins: 1 Q3 (out), 2 P3 (in), 3 PE (in), 4 INH (in), 5 P0 (in), 6 CLK (in), 7 Q0 (out), 8 GND (power) hidden to GND, 9 Q1 (out), 10 MR (in), 11 P1 (in), 12 "0" (out), 13 CF (in), 14 P2 (in), 15 Q2 (out), 16 VDD (power) hidden to VDD

## 4526
designator U?
Programmable 4-Bit Binary Down Counter
footprint DIP-16
simulation model 4526 (SIMCODE)
pins: 1 Q3 (out), 2 P3 (in), 3 PE (in), 4 INH (in), 5 P0 (in), 6 CLK (in), 7 Q0 (out), 8 GND (power) hidden to GND, 9 Q1 (out), 10 MR (in), 11 P1 (in), 12 "0" (out), 13 CF (in), 14 P2 (in), 15 Q2 (out), 16 VDD (power) hidden to VDD

## 4531
designator U?
12-Input Parity Generator
footprint DIP-16
simulation model 4531 (SIMCODE)
pins: 1 D6 (in), 2 D5 (in), 3 D4 (in), 4 D3 (in), 5 D2 (in), 6 D1 (in), 7 D0 (in), 8 GND (power) hidden to GND, 9 Q (out), 10 OD/~{EV} (in), 11 D11 (in), 12 D10 (in), 13 D9 (in), 14 D8 (in), 15 D7 (in), 16 VDD (power) hidden to VDD

## 4532
designator U?
Priority Encoder (8-Level)
footprint DIP-16
simulation model 4532 (SIMCODE)
pins: 1 D4 (in), 2 D5 (in), 3 D6 (in), 4 D7 (in), 5 EI (in), 6 Q2 (out), 7 Q1 (out), 8 GND (power) hidden to GND, 9 Q0 (out), 10 D0 (in), 11 D1 (in), 12 D2 (in), 13 D3 (in), 14 GS (out), 15 EO (out), 16 VDD (power) hidden to VDD

## 4539
designator U?
Dual 4-Input Data Selector
footprint DIP-16
simulation model 4539 (SIMCODE)
pins: 1 ~{STBX} (in), 2 B (in), 3 X3 (in), 4 X2 (in), 5 X1 (in), 6 X0 (in), 7 Z (out), 8 GND (power) hidden to GND, 9 W (out), 10 Y0 (in), 11 Y1 (in), 12 Y2 (in), 13 Y3 (in), 14 A (in), 15 ~{STBY} (in), 16 VDD (power) hidden to VDD

## 4543
designator U?
BCD-to-7 Segment Latch/Decoder/LCD Driver
footprint DIP-16
simulation model 4543 (SIMCODE)
pins: 1 LD (in), 2 IN C (in), 3 IN B (in), 4 IN D (in), 5 IN A (in), 6 PH (in), 7 BI (in), 8 GND (power) hidden to GND, 9 SEG A (out), 10 SEG B (out), 11 SEG C (out), 12 SEG D (out), 13 SEG E (out), 14 SEG G (out), 15 SEG F (out), 16 VDD (power) hidden to VDD

## 4555
designator U?
Dual Binary to 1-of-4 Decoder/Demultiplexer
footprint DIP-16
simulation model 4555 (SIMCODE)
part A pins: 1 ~{E} (in), 2 A (in), 3 B (in), 4 Q0 (out), 5 Q1 (out), 6 Q2 (out), 7 Q3 (out), 8 GND (power) hidden to GND, 16 VDD (power) hidden to VDD
part B pins: 8 GND (power) hidden to GND, 9 Q3 (out), 10 Q2 (out), 11 Q1 (out), 12 Q0 (out), 13 B (in), 14 A (in), 15 ~{E} (in), 16 VDD (power) hidden to VDD

## 4556
designator U?
Dual Binary to 1-of-4 Decoder/Demultiplexer (Inverting)
footprint DIP-16
simulation model 4556 (SIMCODE)
part A pins: 1 ~{E} (in), 2 A (in), 3 B (in), 4 ~{Q0} (out), 5 ~{Q1} (out), 6 ~{Q2} (out), 7 ~{Q3} (out), 8 GND (power) hidden to GND, 16 VDD (power) hidden to VDD
part B pins: 8 GND (power) hidden to GND, 9 ~{Q3} (out), 10 ~{Q2} (out), 11 ~{Q1} (out), 12 ~{Q0} (out), 13 B (in), 14 A (in), 15 ~{E} (in), 16 VDD (power) hidden to VDD

## 4585
designator U?
4-Bit Magnitude Comparator
footprint DIP-16
simulation model 4585 (SIMCODE)
pins: 1 B2 (in), 2 A2 (in), 3 (A=B) (out), 4 (A>B)  (in), 5 (A<B)  (in), 6 (A=B)  (in), 7 A1 (in), 8 GND (power) hidden to GND, 9 B1 (in), 10 A0 (in), 11 B0 (in), 12 (A<B) (out), 13 (A>B) (out), 14 B3  (in), 15 A3  (in), 16 VDD (power) hidden to VDD

## 4731
designator U?
Quad 64-Bit Static Shift Register
footprint DIP-14
simulation model 4731 (SIMCODE)
part A pins: 7 GND (power) hidden to GND, 9 DA (in), 10 ~{CP}A (in), 11 Q63A (out), 14 VDD (power) hidden to VDD
part B pins: 7 GND (power) hidden to GND, 8 Q63B (out), 12 DB (in), 13 ~{CP}B (in), 14 VDD (power) hidden to VDD
part C pins: 1 Q63C (out), 5 ~{CP}C (in), 6 DC (in), 7 GND (power) hidden to GND, 14 VDD (power) hidden to VDD
part D pins: 2 Q63D (out), 3 ~{CP}D (in), 4 DD (in), 7 GND (power) hidden to GND, 14 VDD (power) hidden to VDD

## 7406
designator U?
Hex Inverter with Open-Collector High-Voltage Output
footprint DIP-14
simulation model 7406 (SIMCODE)
part A pins: 1 A (in), 2 Y (oc), 7 GND (power) hidden to GND, 14 VCC (power) hidden to VCC
part B pins: 3 A (in), 4 Y (oc), 7 GND (power) hidden to GND, 14 VCC (power) hidden to VCC
part C pins: 5 A (in), 6 Y (oc), 7 GND (power) hidden to GND, 14 VCC (power) hidden to VCC
part D pins: 7 GND (power) hidden to GND, 8 Y (oc), 9 A (in), 14 VCC (power) hidden to VCC
part E pins: 7 GND (power) hidden to GND, 10 Y (oc), 11 A (in), 14 VCC (power) hidden to VCC
part F pins: 7 GND (power) hidden to GND, 12 Y (oc), 13 A (in), 14 VCC (power) hidden to VCC
2 alternate drawings of the same symbol

## 7407
designator U?
Hex Buffer/Driver with Open-Collector High-Voltage Output
footprint DIP-14
simulation model 7407 (SIMCODE)
part A pins: 1 A (in), 2 Y (oc), 7 GND (power) hidden to GND, 14 VCC (power) hidden to VCC
part B pins: 3 A (in), 4 Y (oc), 7 GND (power) hidden to GND, 14 VCC (power) hidden to VCC
part C pins: 5 A (in), 6 Y (oc), 7 GND (power) hidden to GND, 14 VCC (power) hidden to VCC
part D pins: 7 GND (power) hidden to GND, 8 Y (oc), 9 A (in), 14 VCC (power) hidden to VCC
part E pins: 7 GND (power) hidden to GND, 10 Y (oc), 11 A (in), 14 VCC (power) hidden to VCC
part F pins: 7 GND (power) hidden to GND, 12 Y (oc), 13 A (in), 14 VCC (power) hidden to VCC
2 alternate drawings of the same symbol

## 7425
designator U?
Dual 4-Input NOR Gate with Strobe
footprint DIP-14
simulation model 7425 (SIMCODE)
part A pins: 1 A (in), 2 B (in), 3 G (in), 4 C (in), 5 D (in), 6 Y (out), 7 GND (power) hidden to GND, 14 VCC (power) hidden to VCC
part B pins: 7 GND (power) hidden to GND, 8 Y (out), 9 A (in), 10 B (in), 11 G (in), 12 C (in), 13 D (in), 14 VCC (power) hidden to VCC
1 alternate drawing of the same symbol

## 7428
designator U?
Quad 2-Input NOR Gate
footprint DIP-14
simulation model 7428 (SIMCODE)
part A pins: 1 Y (out), 2 A (in), 3 B (in), 7 GND (power) hidden to GND, 14 VCC (power) hidden to VCC
part B pins: 4 Y (out), 5 A (in), 6 B (in), 7 GND (power) hidden to GND, 14 VCC (power) hidden to VCC
part C pins: 7 GND (power) hidden to GND, 8 A (in), 9 B (in), 10 Y (out), 14 VCC (power) hidden to VCC
part D pins: 7 GND (power) hidden to GND, 11 A (in), 12 B (in), 13 Y (out), 14 VCC (power) hidden to VCC
1 alternate drawing of the same symbol

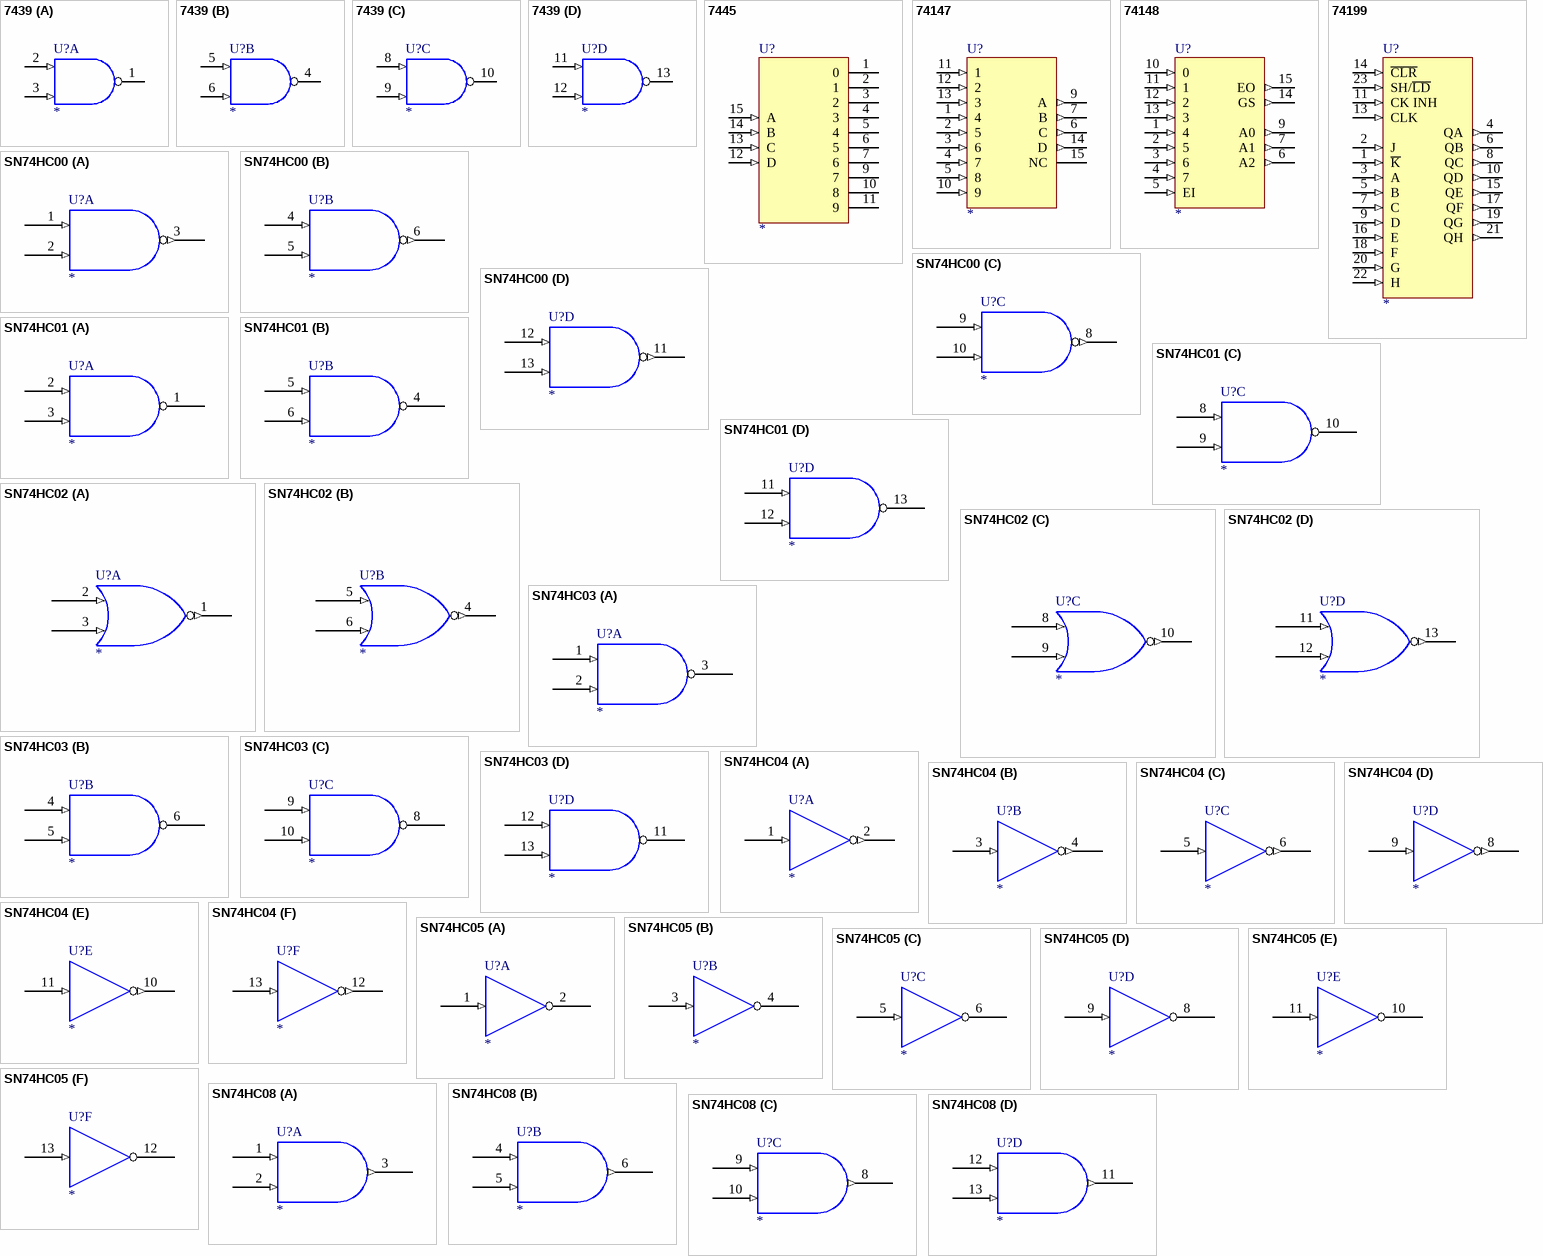
[diagram p33: symbols 7439 to SN74HC08]

## 7439
designator U?
Quad 2-Input Positive-NAND Buffer with Open-Collector Output
footprint DIP-14
simulation model 7439 (SIMCODE)
part A pins: 1 Y (oc), 2 A (in), 3 B (in), 7 GND (power) hidden to GND, 14 VCC (power) hidden to VCC
part B pins: 4 Y (oc), 5 A (in), 6 B (in), 7 GND (power) hidden to GND, 14 VCC (power) hidden to VCC
part C pins: 7 GND (power) hidden to GND, 8 A (in), 9 B (in), 10 Y (oc), 14 VCC (power) hidden to VCC
part D pins: 7 GND (power) hidden to GND, 11 A (in), 12 B (in), 13 Y (oc), 14 VCC (power) hidden to VCC
1 alternate drawing of the same symbol

## 7445
designator U?
BCD-to-Decimal Decoder/Driver
footprint DIP-16
simulation model 7445 (SIMCODE)
pins: 1 0 (oc), 2 1 (oc), 3 2 (oc), 4 3 (oc), 5 4 (oc), 6 5 (oc), 7 6 (oc), 8 GND (power) hidden to GND, 9 7 (oc), 10 8 (oc), 11 9 (oc), 12 D (in), 13 C (in), 14 B (in), 15 A (in), 16 VCC (power) hidden to VCC
1 alternate drawing of the same symbol

## 74147
designator U?
10-Line to 4-Line Priority Encoder
footprint DIP-16
simulation model 74147 (SIMCODE)
pins: 1 4 (in), 2 5 (in), 3 6 (in), 4 7 (in), 5 8 (in), 6 C (out), 7 B (out), 8 GND (power) hidden to GND, 9 A (out), 10 9 (in), 11 1 (in), 12 2 (in), 13 3 (in), 14 D (out), 15 NC, 16 VCC (power) hidden to VCC
1 alternate drawing of the same symbol

## 74148
designator U?
8-Line to 3-Line Priority Encoder
footprint DIP-16
simulation model 74148 (SIMCODE)
pins: 1 4 (in), 2 5 (in), 3 6 (in), 4 7 (in), 5 EI (in), 6 A2 (out), 7 A1 (out), 8 GND (power) hidden to GND, 9 A0 (out), 10 0 (in), 11 1 (in), 12 2 (in), 13 3 (in), 14 GS (out), 15 EO (out), 16 VCC (power) hidden to VCC
1 alternate drawing of the same symbol

## 74199
designator U?
8-Bit Shift Register
footprint DIP-24
simulation model 74199 (SIMCODE)
pins: 1 ~{K} (in), 2 J (in), 3 A (in), 4 QA (out), 5 B (in), 6 QB (out), 7 C (in), 8 QC (out), 9 D (in), 10 QD (out), 11 CK INH (in), 12 GND (power) hidden to GND, 13 CLK (in), 14 ~{CLR} (in), 15 QE (out), 16 E (in), 17 QF (out), 18 F (in), 19 QG (out), 20 G (in), 21 QH (out), 22 H (in), 23 SH/~{LD} (in), 24 VCC (power) hidden to VCC
1 alternate drawing of the same symbol

## SN74HC00
designator U?
Quad 2-IN Pos Nand G
footprint SO14
footprint DIP-14
part A pins: 1 (in), 2 (in), 3 (out), 7 GND (power) hidden to GND, 14 VCC (power) hidden to VCC
part B pins: 4 (in), 5 (in), 6 (out), 7 GND (power) hidden to GND, 14 VCC (power) hidden to VCC
part C pins: 7 GND (power) hidden to GND, 8 (out), 9 (in), 10 (in), 14 VCC (power) hidden to VCC
part D pins: 7 GND (power) hidden to GND, 11 (out), 12 (in), 13 (in), 14 VCC (power) hidden to VCC
2 alternate drawings of the same symbol

## SN74HC01
designator U?
Quad 2-IN Pos Nand G OCO
footprint SO14
footprint DIP-14
part A pins: 1 (oc), 2 (in), 3 (in), 7 GND (power) hidden to GND, 14 VCC (power) hidden to VCC
part B pins: 4 (oc), 5 (in), 6 (in), 7 GND (power) hidden to GND, 14 VCC (power) hidden to VCC
part C pins: 7 GND (power) hidden to GND, 8 (in), 9 (in), 10 (oc), 14 VCC (power) hidden to VCC
part D pins: 7 GND (power) hidden to GND, 11 (in), 12 (in), 13 (oc), 14 VCC (power) hidden to VCC
2 alternate drawings of the same symbol

## SN74HC02
designator U?
Quad 2-IN Pos Nor G
footprint SO14
footprint DIP-14
part A pins: 1 (out), 2 (in), 3 (in), 7 GND (power) hidden to GND, 14 VCC (power) hidden to VCC
part B pins: 4 (out), 5 (in), 6 (in), 7 GND (power) hidden to GND, 14 VCC (power) hidden to VCC
part C pins: 7 GND (power) hidden to GND, 8 (in), 9 (in), 10 (out), 14 VCC (power) hidden to VCC
part D pins: 7 GND (power) hidden to GND, 11 (in), 12 (in), 13 (out), 14 VCC (power) hidden to VCC
2 alternate drawings of the same symbol

## SN74HC03
designator U?
Quad 2-IN Pos Nand G OCO
footprint SO14
footprint DIP-14
part A pins: 1 (in), 2 (in), 3 (oc), 7 GND (power) hidden to GND, 14 VCC (power) hidden to VCC
part B pins: 4 (in), 5 (in), 6 (oc), 7 GND (power) hidden to GND, 14 VCC (power) hidden to VCC
part C pins: 7 GND (power) hidden to GND, 8 (oc), 9 (in), 10 (in), 14 VCC (power) hidden to VCC
part D pins: 7 GND (power) hidden to GND, 11 (oc), 12 (in), 13 (in), 14 VCC (power) hidden to VCC
2 alternate drawings of the same symbol

## SN74HC04
designator U?
Hex Inverters
footprint SO14
footprint DIP-14
part A pins: 1 (in), 2 (out), 7 GND (power) hidden to GND, 14 VCC (power) hidden to VCC
part B pins: 3 (in), 4 (out), 7 GND (power) hidden to GND, 14 VCC (power) hidden to VCC
part C pins: 5 (in), 6 (out), 7 GND (power) hidden to GND, 14 VCC (power) hidden to VCC
part D pins: 7 GND (power) hidden to GND, 8 (out), 9 (in), 14 VCC (power) hidden to VCC
part E pins: 7 GND (power) hidden to GND, 10 (out), 11 (in), 14 VCC (power) hidden to VCC
part F pins: 7 GND (power) hidden to GND, 12 (out), 13 (in), 14 VCC (power) hidden to VCC
2 alternate drawings of the same symbol

## SN74HC05
designator U?
Hex Inverters OCO
footprint SO14
footprint DIP-14
part A pins: 1 (in), 2 (oc), 7 GND (power) hidden to GND, 14 VCC (power) hidden to VCC
part B pins: 3 (in), 4 (oc), 7 GND (power) hidden to GND, 14 VCC (power) hidden to VCC
part C pins: 5 (in), 6 (oc), 7 GND (power) hidden to GND, 14 VCC (power) hidden to VCC
part D pins: 7 GND (power) hidden to GND, 8 (oc), 9 (in), 14 VCC (power) hidden to VCC
part E pins: 7 GND (power) hidden to GND, 10 (oc), 11 (in), 14 VCC (power) hidden to VCC
part F pins: 7 GND (power) hidden to GND, 12 (oc), 13 (in), 14 VCC (power) hidden to VCC
2 alternate drawings of the same symbol

## SN74HC08
designator U?
Quad 2-IN Pos And G
footprint SO14
footprint DIP-14
part A pins: 1 (in), 2 (in), 3 (out), 7 GND (power) hidden to GND, 14 VCC (power) hidden to VCC
part B pins: 4 (in), 5 (in), 6 (out), 7 GND (power) hidden to GND, 14 VCC (power) hidden to VCC
part C pins: 7 GND (power) hidden to GND, 8 (out), 9 (in), 10 (in), 14 VCC (power) hidden to VCC
part D pins: 7 GND (power) hidden to GND, 11 (out), 12 (in), 13 (in), 14 VCC (power) hidden to VCC
2 alternate drawings of the same symbol

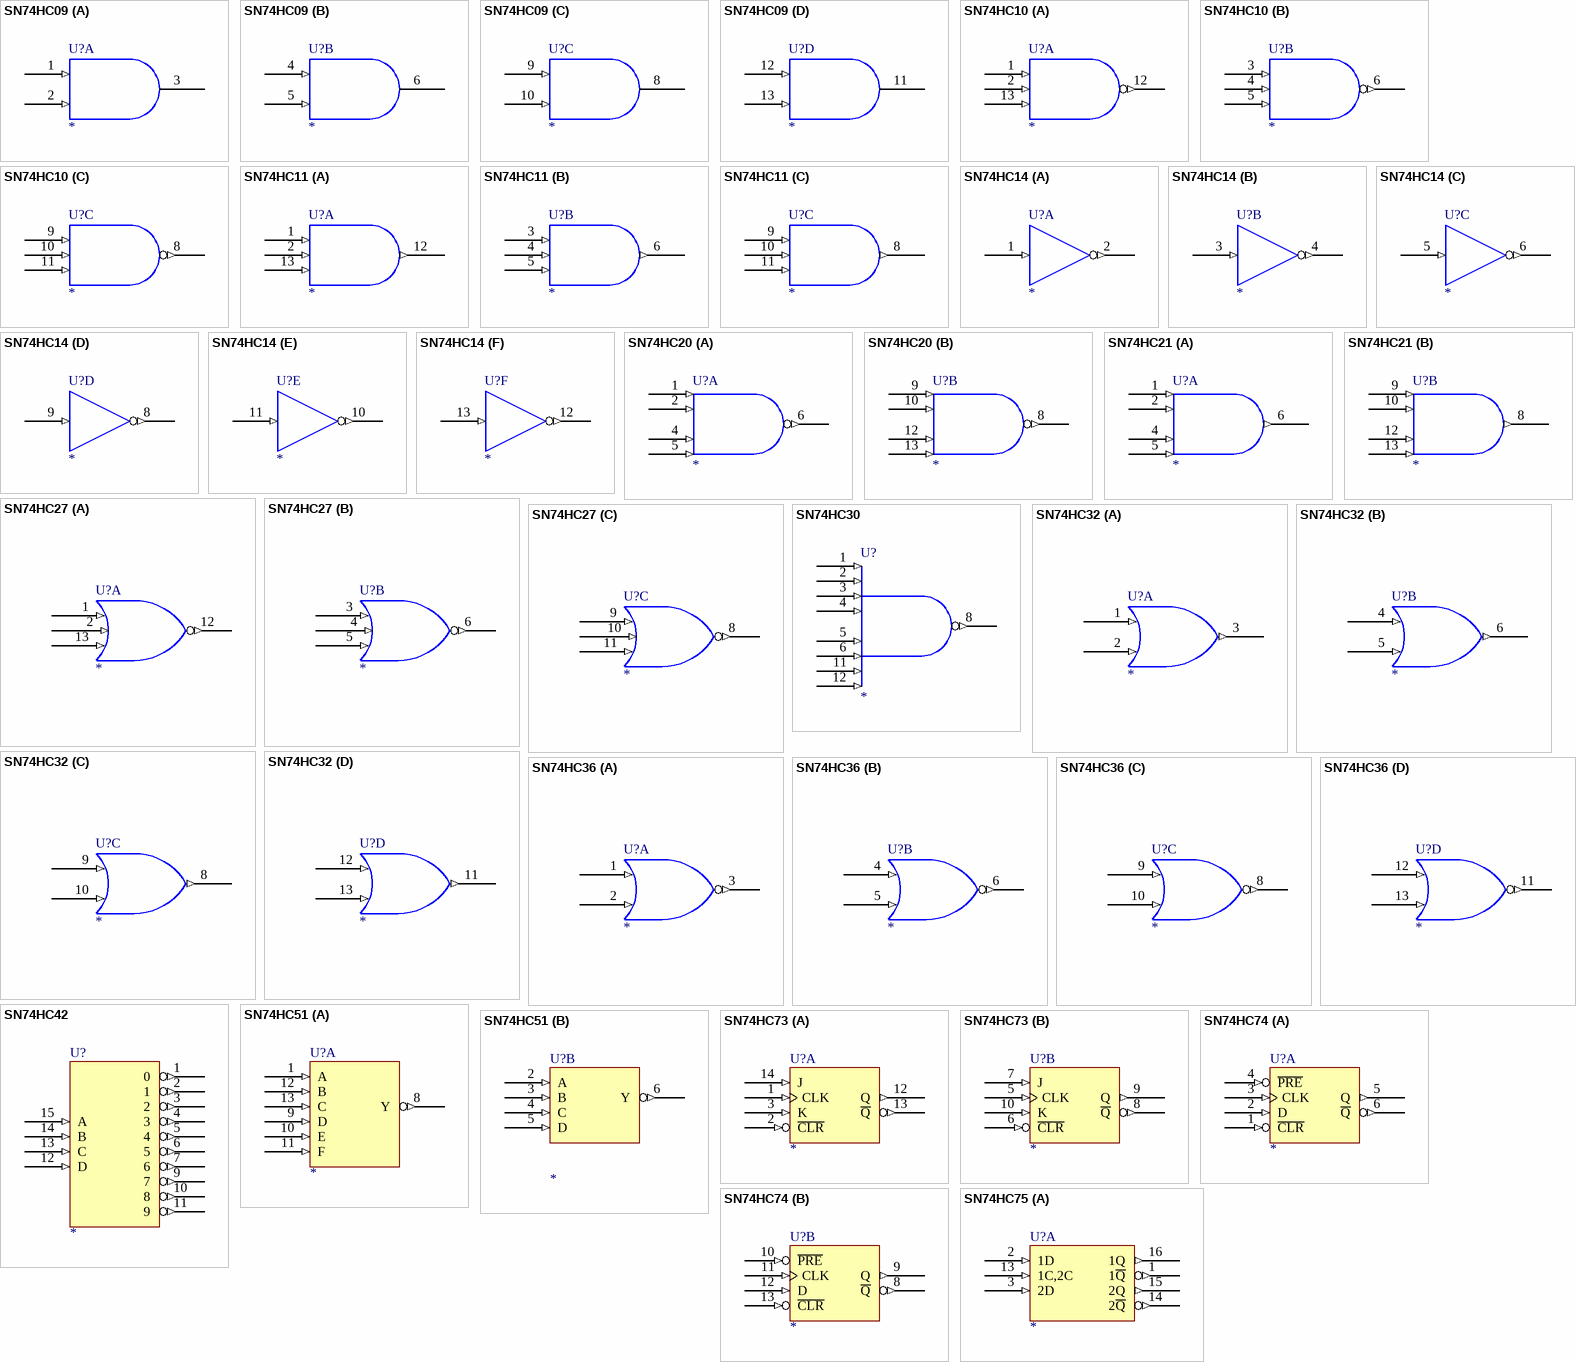
[diagram p34: symbols SN74HC09 to SN74HC75]

## SN74HC09
designator U?
Quad 2-IN Pos And G OCO
footprint SO14
footprint DIP-14
part A pins: 1 (in), 2 (in), 3 (oc), 7 GND (power) hidden to GND, 14 VCC (power) hidden to VCC
part B pins: 4 (in), 5 (in), 6 (oc), 7 GND (power) hidden to GND, 14 VCC (power) hidden to VCC
part C pins: 7 GND (power) hidden to GND, 8 (oc), 9 (in), 10 (in), 14 VCC (power) hidden to VCC
part D pins: 7 GND (power) hidden to GND, 11 (oc), 12 (in), 13 (in), 14 VCC (power) hidden to VCC
2 alternate drawings of the same symbol

## SN74HC10
designator U?
Triple 3-IN Pos Nand G
footprint SO14
footprint DIP-14
part A pins: 1 (in), 2 (in), 7 GND (power) hidden to GND, 12 (out), 13 (in), 14 VCC (power) hidden to VCC
part B pins: 3 (in), 4 (in), 5 (in), 6 (out), 7 GND (power) hidden to GND, 14 VCC (power) hidden to VCC
part C pins: 7 GND (power) hidden to GND, 8 (out), 9 (in), 10 (in), 11 (in), 14 VCC (power) hidden to VCC
2 alternate drawings of the same symbol

## SN74HC11
designator U?
Triple 3-IN Pos And G
footprint SO14
footprint DIP-14
part A pins: 1 (in), 2 (in), 7 GND (power) hidden to GND, 12 (out), 13 (in), 14 VCC (power) hidden to VCC
part B pins: 3 (in), 4 (in), 5 (in), 6 (out), 7 GND (power) hidden to GND, 14 VCC (power) hidden to VCC
part C pins: 7 GND (power) hidden to GND, 8 (out), 9 (in), 10 (in), 11 (in), 14 VCC (power) hidden to VCC
2 alternate drawings of the same symbol

## SN74HC14
designator U?
Hex Inverter SCH
footprint SO14
footprint DIP-14
part A pins: 1 (in), 2 (out), 7 GND (power) hidden to GND, 14 VCC (power) hidden to VCC
part B pins: 3 (in), 4 (out), 7 GND (power) hidden to GND, 14 VCC (power) hidden to VCC
part C pins: 5 (in), 6 (out), 7 GND (power) hidden to GND, 14 VCC (power) hidden to VCC
part D pins: 7 GND (power) hidden to GND, 8 (out), 9 (in), 14 VCC (power) hidden to VCC
part E pins: 7 GND (power) hidden to GND, 10 (out), 11 (in), 14 VCC (power) hidden to VCC
part F pins: 7 GND (power) hidden to GND, 12 (out), 13 (in), 14 VCC (power) hidden to VCC
2 alternate drawings of the same symbol

## SN74HC20
designator U?
Dual 4-IN Pos Nand G
footprint SO14
footprint DIP-14
part A pins: 1 (in), 2 (in), 4 (in), 5 (in), 6 (out), 7 GND (power) hidden to GND, 14 VCC (power) hidden to VCC
part B pins: 7 GND (power) hidden to GND, 8 (out), 9 (in), 10 (in), 12 (in), 13 (in), 14 VCC (power) hidden to VCC
2 alternate drawings of the same symbol

## SN74HC21
designator U?
Dual 4-IN Pos And G
footprint SO14
footprint DIP-14
part A pins: 1 (in), 2 (in), 4 (in), 5 (in), 6 (out), 7 GND (power) hidden to GND, 14 VCC (power) hidden to VCC
part B pins: 7 GND (power) hidden to GND, 8 (out), 9 (in), 10 (in), 12 (in), 13 (in), 14 VCC (power) hidden to VCC
2 alternate drawings of the same symbol

## SN74HC27
designator U?
Triple 3-IN Pos Nor G
footprint SO14
footprint DIP-14
part A pins: 1 (in), 2 (in), 7 GND (power) hidden to GND, 12 (out), 13 (in), 14 VCC (power) hidden to VCC
part B pins: 3 (in), 4 (in), 5 (in), 6 (out), 7 GND (power) hidden to GND, 14 VCC (power) hidden to VCC
part C pins: 7 GND (power) hidden to GND, 8 (out), 9 (in), 10 (in), 11 (in), 14 VCC (power) hidden to VCC
2 alternate drawings of the same symbol

## SN74HC30
designator U?
8-IN Nand Pos G
footprint SO14
footprint DIP-14
pins: 1 (in), 2 (in), 3 (in), 4 (in), 5 (in), 6 (in), 7 GND (power) hidden to GND, 8 (out), 11 (in), 12 (in), 14 VCC (power) hidden to VCC
2 alternate drawings of the same symbol

## SN74HC32
designator U?
Quad 2-IN Pos Or G
footprint SO14
footprint DIP-14
part A pins: 1 (in), 2 (in), 3 (out), 7 GND (power) hidden to GND, 14 VCC (power) hidden to VCC
part B pins: 4 (in), 5 (in), 6 (out), 7 GND (power) hidden to GND, 14 VCC (power) hidden to VCC
part C pins: 7 GND (power) hidden to GND, 8 (out), 9 (in), 10 (in), 14 VCC (power) hidden to VCC
part D pins: 7 GND (power) hidden to GND, 11 (out), 12 (in), 13 (in), 14 VCC (power) hidden to VCC
2 alternate drawings of the same symbol

## SN74HC36
designator U?
Quad 2-IN Pos NOR G
footprint SO14
footprint DIP-14
part A pins: 1 (in), 2 (in), 3 (out), 7 GND (power) hidden to GND, 14 VCC (power) hidden to VCC
part B pins: 4 (in), 5 (in), 6 (out), 7 GND (power) hidden to GND, 14 VCC (power) hidden to VCC
part C pins: 7 GND (power) hidden to GND, 8 (out), 9 (in), 10 (in), 14 VCC (power) hidden to VCC
part D pins: 7 GND (power) hidden to GND, 11 (out), 12 (in), 13 (in), 14 VCC (power) hidden to VCC
2 alternate drawings of the same symbol

## SN74HC42
designator U?
4-line BCD to 10-line decimal Dec
footprint SO16
footprint DIP-16
pins: 1 0 (out), 2 1 (out), 3 2 (out), 4 3 (out), 5 4 (out), 6 5 (out), 7 6 (out), 8 GND (power) hidden to GND, 9 7 (out), 10 8 (out), 11 9 (out), 12 D (in), 13 C (in), 14 B (in), 15 A (in), 16 VCC (power) hidden to VCC
1 alternate drawing of the same symbol